# Altium integrated library NXP_60_26022015.IntLib: 1306 symbols (part 20 of 28)
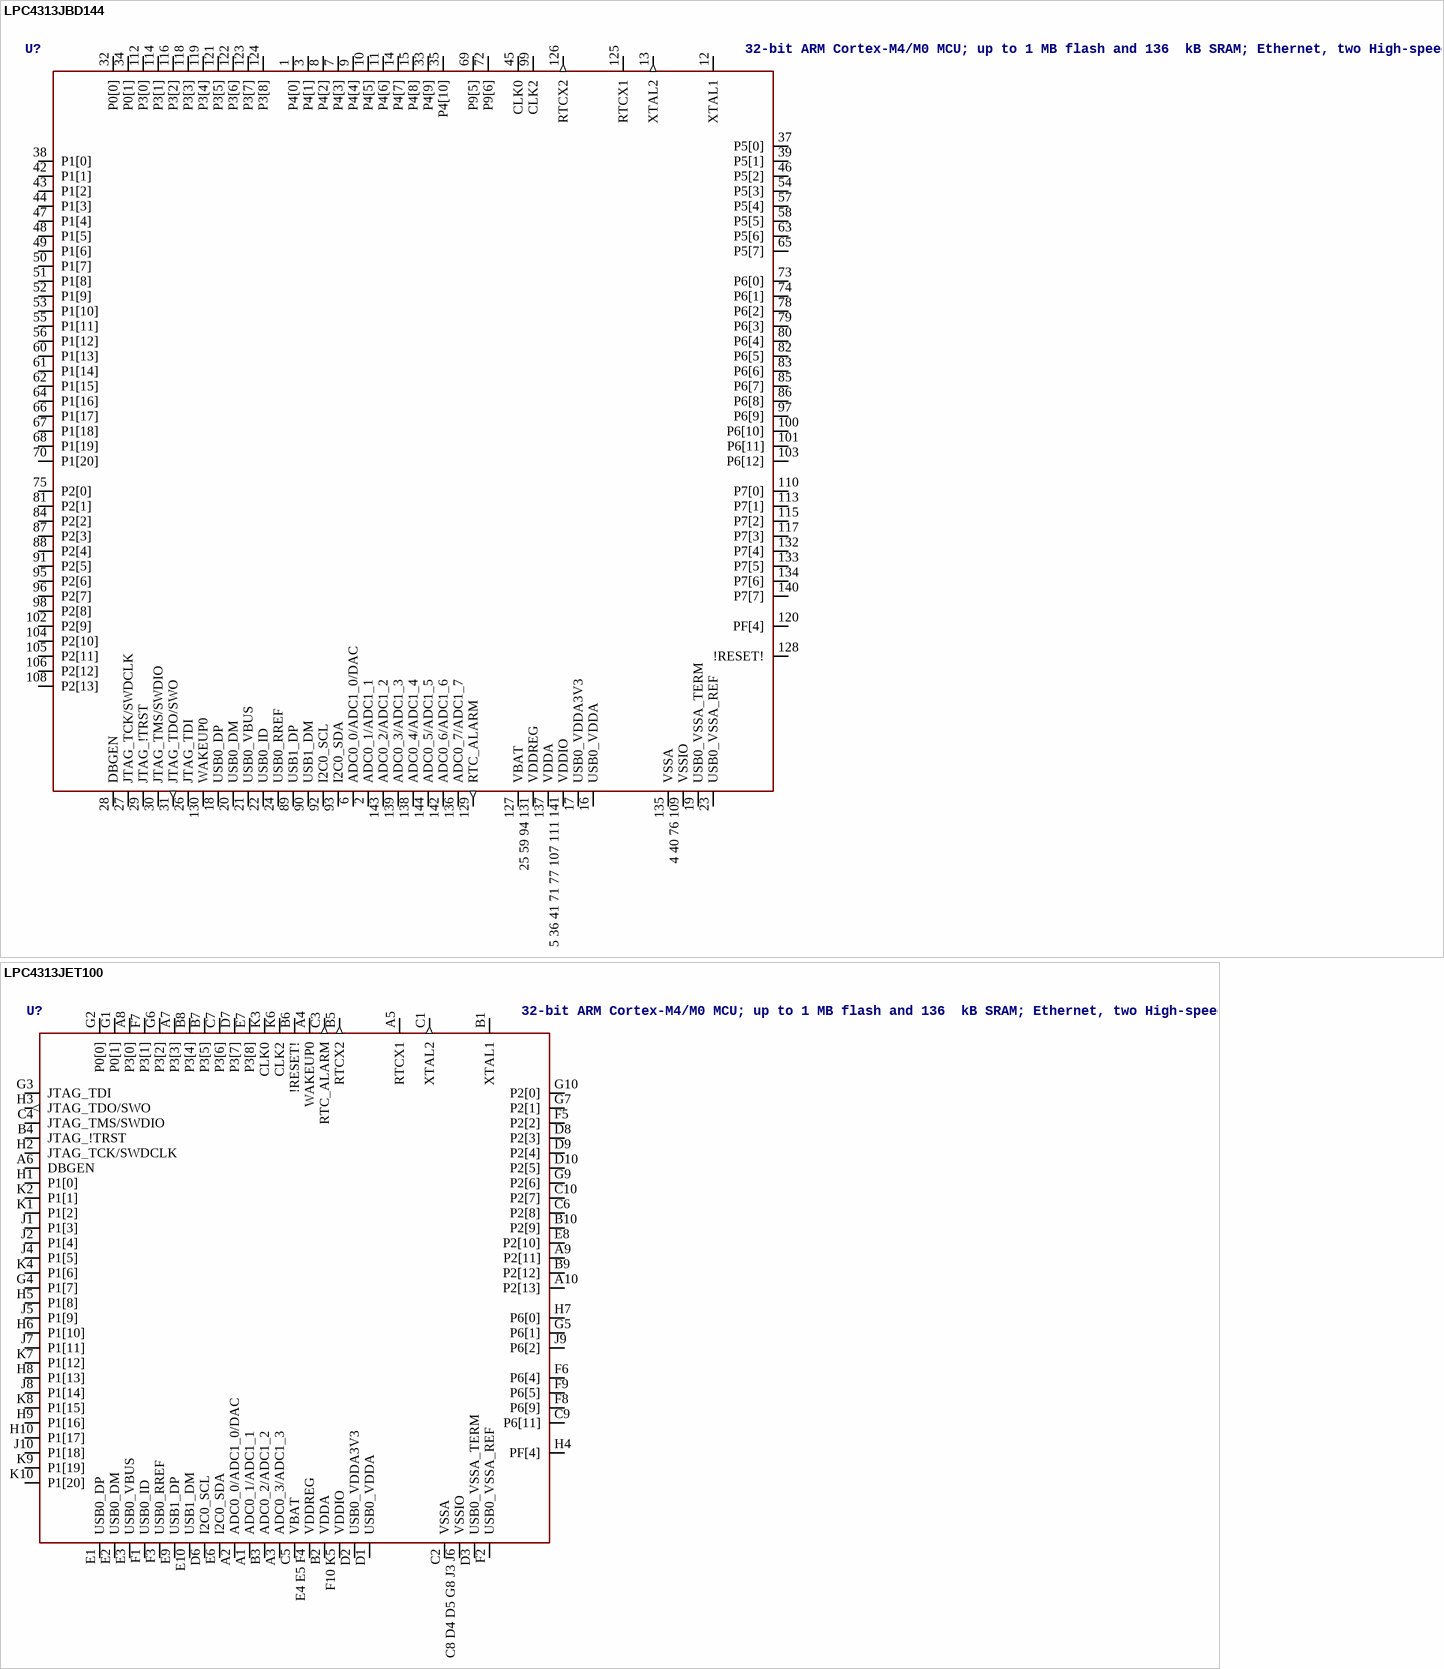
[diagram p204: symbols LPC4313JBD144 to LPC4313JET100]

## LPC4313JBD144
designator U?, comment 32-bit ARM Cortex-M4/M0 MCU; up to 1 MB flash and 136  kB SRAM; Ethernet, two High-speed USB, LCD, EMC The LPC435x/3x/2x/1x are ARM Cortex-M4 based microcontrollers for embedded applications which include an ARM Cortex-M0 coprocessor, up to 1 MB of flash and 136 kB of on-chip SRAM, 16 kB of EEPROM memory, a quad SPI Flash Interface (SPIFI), advanced configurable peripherals such as the State Configurable Timer (SCT) and the Serial General Purpose I/O (SGPIO) interface, two High-speed USB controllers, Ethernet, LCD, an external memory controller, and multiple digital and analog peripherals. The LPC435x/3x/2x/1x operate at CPU frequencies of up to 204 MHz. The ARM Cortex-M4 is a next generation 32-bit core that offers system enhancements such as low power consumption, enhanced debug features, and a high level of support block integration. The ARM Cortex-M4 CPU incorporates a 3-stage pipeline, uses a Harvard architecture with separate local instruction and data buses as well as a third bus for peripherals, and includes an internal prefetch unit that supports speculative branching. The ARM Cortex-M4 supports single-cycle digital signal processing and SIMD instructions. A hardware floating-point unit is integrated in the core. The ARM Cortex-M0 coprocessor is an energy-efficient and easy-to-use 32-bit core which is upward code- and tool-compatible with the Cortex-M4 core. The Cortex-M0 coprocessor, designed as a replacement for existing 8/16-bit microcontrollers, offers up to 204 MHz performance with a simple instruction set and reduced code size.    AAL Eindhoven MK
footprint SOT486-1
pins: 1 P4[0], 2 ADC0_1/ADC1_1, 3 P4[1], 4 40 76 109 VSSIO (power), 5 36 41 71 77 107 111 141 VDDIO (power), 6 ADC0_0/ADC1_0/DAC, 7 P4[3], 8 P4[2], 9 P4[4], 10 P4[5], 11 P4[6], 12 XTAL1, 13 XTAL2 (out), 14 P4[7], 15 P4[8], 16 USB0_VDDA (power), 17 USB0_VDDA3V3 (power), 18 USB0_DP, 19 USB0_VSSA_TERM (power), 20 USB0_DM, 21 USB0_VBUS, 22 USB0_ID, 23 USB0_VSSA_REF (power), 24 USB0_RREF, 25 59 94 131 VDDREG (power), 26 JTAG_TDI, 27 JTAG_TCK/SWDCLK, 28 DBGEN, 29 JTAG_!TRST, 30 JTAG_TMS/SWDIO, 31 JTAG_TDO/SWO (out), 32 P0[0], 33 P4[9], 34 P0[1], 35 P4[10], 37 P5[0], 38 P1[0], 39 P5[1], 42 P1[1], 43 P1[2], 44 P1[3], 45 CLK0, 46 P5[2], 47 P1[4], 48 P1[5], 49 P1[6], 50 P1[7], 51 P1[8], 52 P1[9], 53 P1[10], 54 P5[3], 55 P1[11], 56 P1[12], 57 P5[4], 58 P5[5], 60 P1[13], 61 P1[14], 62 P1[15], 63 P5[6], 64 P1[16], 65 P5[7], 66 P1[17], 67 P1[18], 68 P1[19], 69 P9[5], 70 P1[20], 72 P9[6], 73 P6[0], 74 P6[1], 75 P2[0], 78 P6[2], 79 P6[3], 80 P6[4], 81 P2[1], 82 P6[5], 83 P6[6], 84 P2[2], 85 P6[7], 86 P6[8], 87 P2[3], 88 P2[4], 89 USB1_DP, 90 USB1_DM, 91 P2[5], 92 I2C0_SCL, 93 I2C0_SDA, 95 P2[6], 96 P2[7], 97 P6[9], 98 P2[8], 99 CLK2, 100 P6[10], 101 P6[11], 102 P2[9], 103 P6[12], 104 P2[10], 105 P2[11], 106 P2[12], 108 P2[13], 110 P7[0], 112 P3[0], 113 P7[1], 114 P3[1], 115 P7[2], 116 P3[2], 117 P7[3], 118 P3[3], 119 P3[4], 120 PF[4], 121 P3[5], 122 P3[6], 123 P3[7], 124 P3[8], 125 RTCX1, 126 RTCX2 (out), 127 VBAT (power), 128 !RESET!, 129 RTC_ALARM (out), 130 WAKEUP0, 132 P7[4], 133 P7[5], 134 P7[6], 135 VSSA (power), 136 ADC0_7/ADC1_7, 137 VDDA (power), 138 ADC0_4/ADC1_4, 139 ADC0_3/ADC1_3, 140 P7[7], 142 ADC0_6/ADC1_6, 143 ADC0_2/ADC1_2, 144 ADC0_5/ADC1_5

## LPC4313JET100
designator U?, comment 32-bit ARM Cortex-M4/M0 MCU; up to 1 MB flash and 136  kB SRAM; Ethernet, two High-speed USB, LCD, EMC The LPC435x/3x/2x/1x are ARM Cortex-M4 based microcontrollers for embedded applications which include an ARM Cortex-M0 coprocessor, up to 1 MB of flash and 136 kB of on-chip SRAM, 16 kB of EEPROM memory, a quad SPI Flash Interface (SPIFI), advanced configurable peripherals such as the State Configurable Timer (SCT) and the Serial General Purpose I/O (SGPIO) interface, two High-speed USB controllers, Ethernet, LCD, an external memory controller, and multiple digital and analog peripherals. The LPC435x/3x/2x/1x operate at CPU frequencies of up to 204 MHz. The ARM Cortex-M4 is a next generation 32-bit core that offers system enhancements such as low power consumption, enhanced debug features, and a high level of support block integration. The ARM Cortex-M4 CPU incorporates a 3-stage pipeline, uses a Harvard architecture with separate local instruction and data buses as well as a third bus for peripherals, and includes an internal prefetch unit that supports speculative branching. The ARM Cortex-M4 supports single-cycle digital signal processing and SIMD instructions. A hardware floating-point unit is integrated in the core. The ARM Cortex-M0 coprocessor is an energy-efficient and easy-to-use 32-bit core which is upward code- and tool-compatible with the Cortex-M4 core. The Cortex-M0 coprocessor, designed as a replacement for existing 8/16-bit microcontrollers, offers up to 204 MHz performance with a simple instruction set and reduced code size.    AAL Eindhoven MK
footprint SOT926-1
pins: A1 ADC0_1/ADC1_1, A2 ADC0_0/ADC1_0/DAC, A3 ADC0_3/ADC1_3, A4 WAKEUP0, A5 RTCX1, A6 DBGEN, A7 P3[3], A8 P3[0], A9 P2[11], A10 P2[13], B1 XTAL1, B2 VDDA (power), B3 ADC0_2/ADC1_2, B4 JTAG_!TRST, B5 RTCX2 (out), B6 !RESET!, B7 P3[5], B8 P3[4], B9 P2[12], B10 P2[9], C1 XTAL2 (out), C2 VSSA (power), C3 RTC_ALARM (out), C4 JTAG_TMS/SWDIO, C5 VBAT (power), C6 P2[8], C7 P3[6], C8 D4 D5 G8 J3 J6 VSSIO (power), C9 P6[11], C10 P2[7], D1 USB0_VDDA (power), D2 USB0_VDDA3V3 (power), D3 USB0_VSSA_TERM (power), D6 I2C0_SCL, D7 P3[7], D8 P2[3], D9 P2[4], D10 P2[5], E1 USB0_DP, E2 USB0_DM, E3 USB0_VBUS, E4 E5 F4 VDDREG (power), E6 I2C0_SDA, E7 P3[8], E8 P2[10], E9 USB1_DP, E10 USB1_DM, F1 USB0_ID, F2 USB0_VSSA_REF (power), F3 USB0_RREF, F5 P2[2], F6 P6[4], F7 P3[1], F8 P6[9], F9 P6[5], F10 K5 VDDIO (power), G1 P0[1], G2 P0[0], G3 JTAG_TDI, G4 P1[7], G5 P6[1], G6 P3[2], G7 P2[1], G9 P2[6], G10 P2[0], H1 P1[0], H2 JTAG_TCK/SWDCLK, H3 JTAG_TDO/SWO (out), H4 PF[4], H5 P1[8], H6 P1[10], H7 P6[0], H8 P1[13], H9 P1[16], H10 P1[17], J1 P1[3], J2 P1[4], J4 P1[5], J5 P1[9], J7 P1[11], J8 P1[14], J9 P6[2], J10 P1[18], K1 P1[2], K2 P1[1], K3 CLK0, K4 P1[6], K6 CLK2, K7 P1[12], K8 P1[15], K9 P1[19], K10 P1[20]

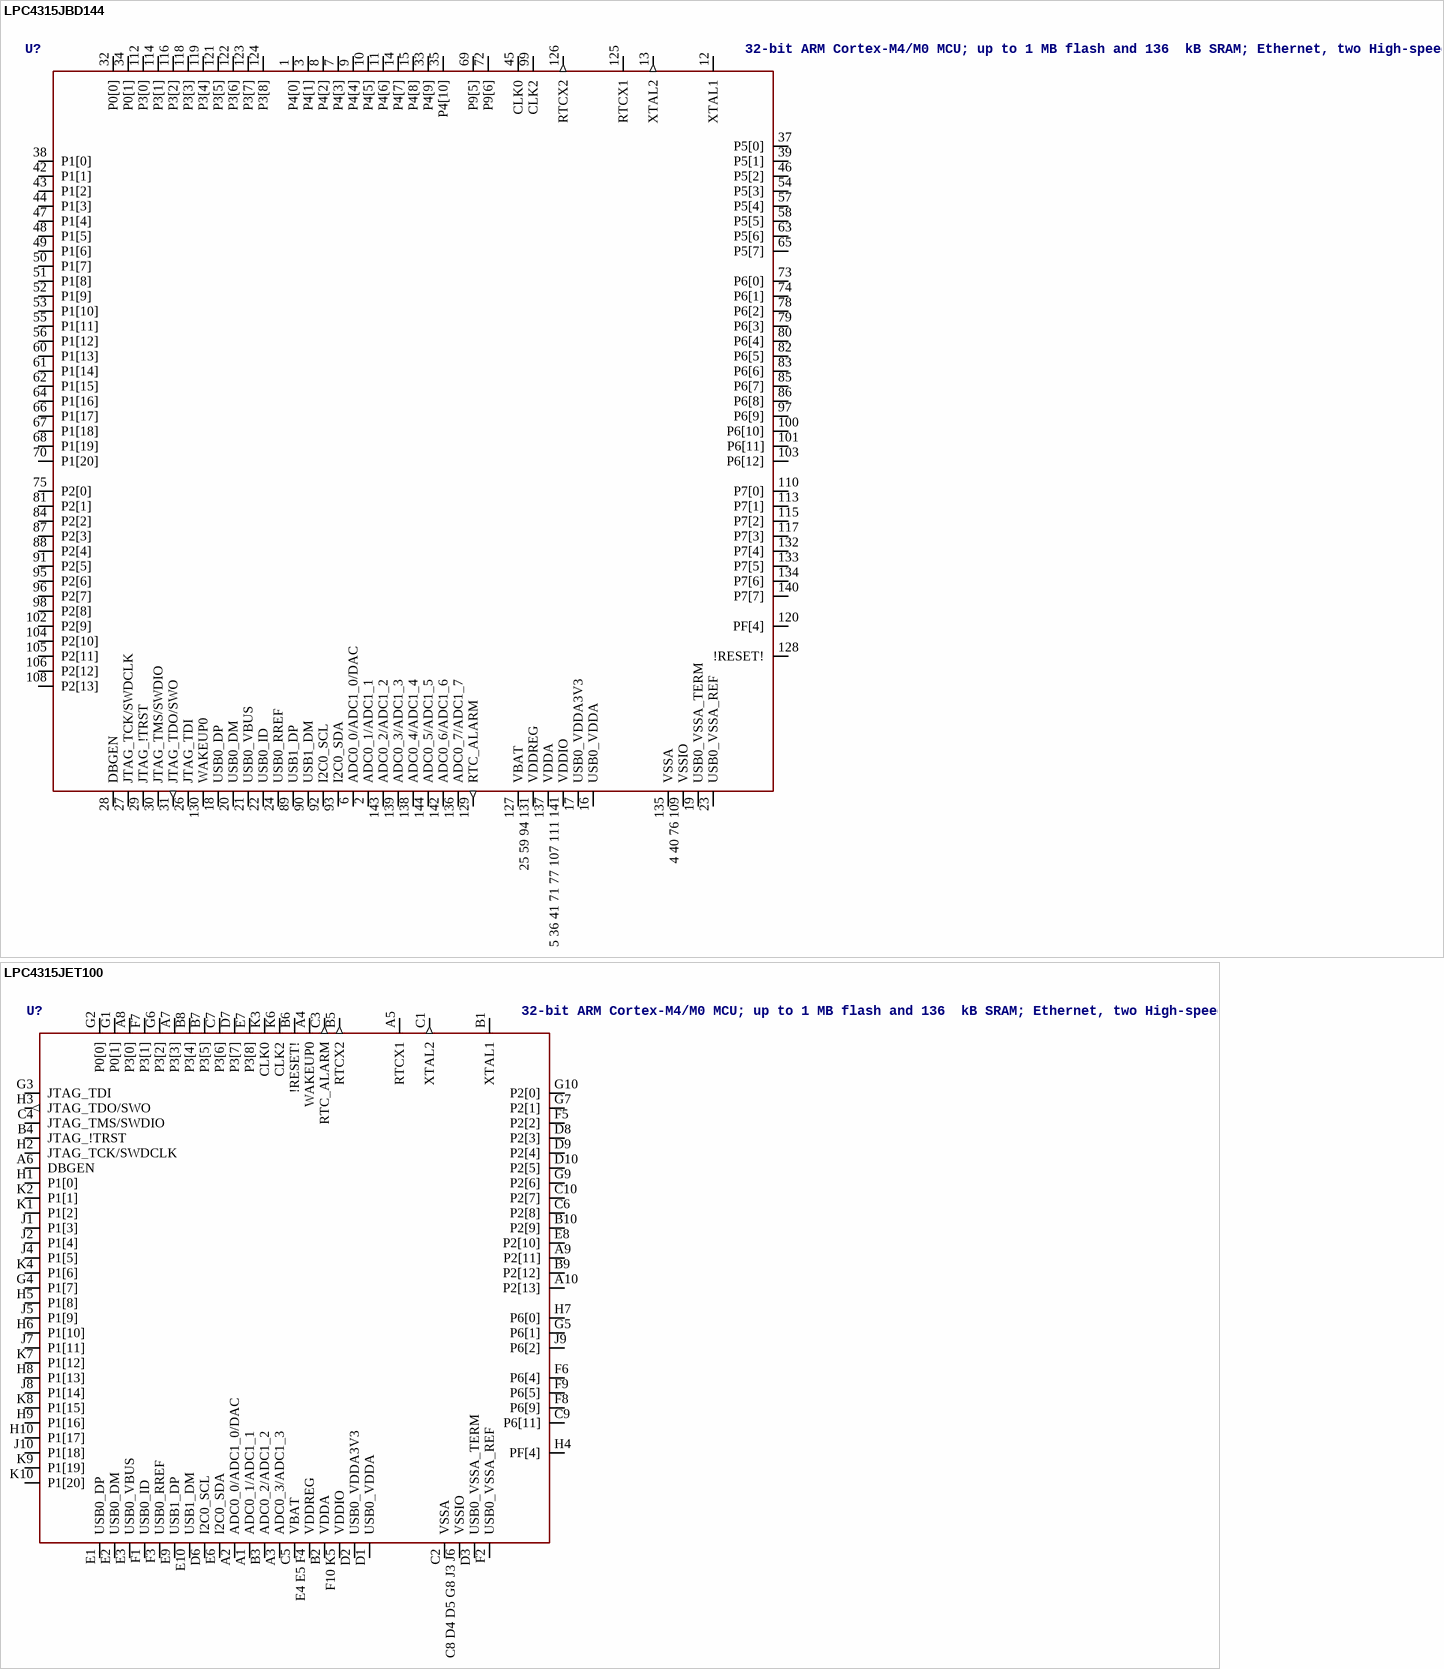
[diagram p132: symbols LPC4315JBD144 to LPC4315JET100]

## LPC4315JBD144
designator U?, comment 32-bit ARM Cortex-M4/M0 MCU; up to 1 MB flash and 136  kB SRAM; Ethernet, two High-speed USB, LCD, EMC The LPC435x/3x/2x/1x are ARM Cortex-M4 based microcontrollers for embedded applications which include an ARM Cortex-M0 coprocessor, up to 1 MB of flash and 136 kB of on-chip SRAM, 16 kB of EEPROM memory, a quad SPI Flash Interface (SPIFI), advanced configurable peripherals such as the State Configurable Timer (SCT) and the Serial General Purpose I/O (SGPIO) interface, two High-speed USB controllers, Ethernet, LCD, an external memory controller, and multiple digital and analog peripherals. The LPC435x/3x/2x/1x operate at CPU frequencies of up to 204 MHz. The ARM Cortex-M4 is a next generation 32-bit core that offers system enhancements such as low power consumption, enhanced debug features, and a high level of support block integration. The ARM Cortex-M4 CPU incorporates a 3-stage pipeline, uses a Harvard architecture with separate local instruction and data buses as well as a third bus for peripherals, and includes an internal prefetch unit that supports speculative branching. The ARM Cortex-M4 supports single-cycle digital signal processing and SIMD instructions. A hardware floating-point unit is integrated in the core. The ARM Cortex-M0 coprocessor is an energy-efficient and easy-to-use 32-bit core which is upward code- and tool-compatible with the Cortex-M4 core. The Cortex-M0 coprocessor, designed as a replacement for existing 8/16-bit microcontrollers, offers up to 204 MHz performance with a simple instruction set and reduced code size.    AAL Eindhoven MK
footprint SOT486-1
pins: 1 P4[0], 2 ADC0_1/ADC1_1, 3 P4[1], 4 40 76 109 VSSIO (power), 5 36 41 71 77 107 111 141 VDDIO (power), 6 ADC0_0/ADC1_0/DAC, 7 P4[3], 8 P4[2], 9 P4[4], 10 P4[5], 11 P4[6], 12 XTAL1, 13 XTAL2 (out), 14 P4[7], 15 P4[8], 16 USB0_VDDA (power), 17 USB0_VDDA3V3 (power), 18 USB0_DP, 19 USB0_VSSA_TERM (power), 20 USB0_DM, 21 USB0_VBUS, 22 USB0_ID, 23 USB0_VSSA_REF (power), 24 USB0_RREF, 25 59 94 131 VDDREG (power), 26 JTAG_TDI, 27 JTAG_TCK/SWDCLK, 28 DBGEN, 29 JTAG_!TRST, 30 JTAG_TMS/SWDIO, 31 JTAG_TDO/SWO (out), 32 P0[0], 33 P4[9], 34 P0[1], 35 P4[10], 37 P5[0], 38 P1[0], 39 P5[1], 42 P1[1], 43 P1[2], 44 P1[3], 45 CLK0, 46 P5[2], 47 P1[4], 48 P1[5], 49 P1[6], 50 P1[7], 51 P1[8], 52 P1[9], 53 P1[10], 54 P5[3], 55 P1[11], 56 P1[12], 57 P5[4], 58 P5[5], 60 P1[13], 61 P1[14], 62 P1[15], 63 P5[6], 64 P1[16], 65 P5[7], 66 P1[17], 67 P1[18], 68 P1[19], 69 P9[5], 70 P1[20], 72 P9[6], 73 P6[0], 74 P6[1], 75 P2[0], 78 P6[2], 79 P6[3], 80 P6[4], 81 P2[1], 82 P6[5], 83 P6[6], 84 P2[2], 85 P6[7], 86 P6[8], 87 P2[3], 88 P2[4], 89 USB1_DP, 90 USB1_DM, 91 P2[5], 92 I2C0_SCL, 93 I2C0_SDA, 95 P2[6], 96 P2[7], 97 P6[9], 98 P2[8], 99 CLK2, 100 P6[10], 101 P6[11], 102 P2[9], 103 P6[12], 104 P2[10], 105 P2[11], 106 P2[12], 108 P2[13], 110 P7[0], 112 P3[0], 113 P7[1], 114 P3[1], 115 P7[2], 116 P3[2], 117 P7[3], 118 P3[3], 119 P3[4], 120 PF[4], 121 P3[5], 122 P3[6], 123 P3[7], 124 P3[8], 125 RTCX1, 126 RTCX2 (out), 127 VBAT (power), 128 !RESET!, 129 RTC_ALARM (out), 130 WAKEUP0, 132 P7[4], 133 P7[5], 134 P7[6], 135 VSSA (power), 136 ADC0_7/ADC1_7, 137 VDDA (power), 138 ADC0_4/ADC1_4, 139 ADC0_3/ADC1_3, 140 P7[7], 142 ADC0_6/ADC1_6, 143 ADC0_2/ADC1_2, 144 ADC0_5/ADC1_5

## LPC4315JET100
designator U?, comment 32-bit ARM Cortex-M4/M0 MCU; up to 1 MB flash and 136  kB SRAM; Ethernet, two High-speed USB, LCD, EMC The LPC435x/3x/2x/1x are ARM Cortex-M4 based microcontrollers for embedded applications which include an ARM Cortex-M0 coprocessor, up to 1 MB of flash and 136 kB of on-chip SRAM, 16 kB of EEPROM memory, a quad SPI Flash Interface (SPIFI), advanced configurable peripherals such as the State Configurable Timer (SCT) and the Serial General Purpose I/O (SGPIO) interface, two High-speed USB controllers, Ethernet, LCD, an external memory controller, and multiple digital and analog peripherals. The LPC435x/3x/2x/1x operate at CPU frequencies of up to 204 MHz. The ARM Cortex-M4 is a next generation 32-bit core that offers system enhancements such as low power consumption, enhanced debug features, and a high level of support block integration. The ARM Cortex-M4 CPU incorporates a 3-stage pipeline, uses a Harvard architecture with separate local instruction and data buses as well as a third bus for peripherals, and includes an internal prefetch unit that supports speculative branching. The ARM Cortex-M4 supports single-cycle digital signal processing and SIMD instructions. A hardware floating-point unit is integrated in the core. The ARM Cortex-M0 coprocessor is an energy-efficient and easy-to-use 32-bit core which is upward code- and tool-compatible with the Cortex-M4 core. The Cortex-M0 coprocessor, designed as a replacement for existing 8/16-bit microcontrollers, offers up to 204 MHz performance with a simple instruction set and reduced code size.    AAL Eindhoven MK
footprint SOT926-1
pins: A1 ADC0_1/ADC1_1, A2 ADC0_0/ADC1_0/DAC, A3 ADC0_3/ADC1_3, A4 WAKEUP0, A5 RTCX1, A6 DBGEN, A7 P3[3], A8 P3[0], A9 P2[11], A10 P2[13], B1 XTAL1, B2 VDDA (power), B3 ADC0_2/ADC1_2, B4 JTAG_!TRST, B5 RTCX2 (out), B6 !RESET!, B7 P3[5], B8 P3[4], B9 P2[12], B10 P2[9], C1 XTAL2 (out), C2 VSSA (power), C3 RTC_ALARM (out), C4 JTAG_TMS/SWDIO, C5 VBAT (power), C6 P2[8], C7 P3[6], C8 D4 D5 G8 J3 J6 VSSIO (power), C9 P6[11], C10 P2[7], D1 USB0_VDDA (power), D2 USB0_VDDA3V3 (power), D3 USB0_VSSA_TERM (power), D6 I2C0_SCL, D7 P3[7], D8 P2[3], D9 P2[4], D10 P2[5], E1 USB0_DP, E2 USB0_DM, E3 USB0_VBUS, E4 E5 F4 VDDREG (power), E6 I2C0_SDA, E7 P3[8], E8 P2[10], E9 USB1_DP, E10 USB1_DM, F1 USB0_ID, F2 USB0_VSSA_REF (power), F3 USB0_RREF, F5 P2[2], F6 P6[4], F7 P3[1], F8 P6[9], F9 P6[5], F10 K5 VDDIO (power), G1 P0[1], G2 P0[0], G3 JTAG_TDI, G4 P1[7], G5 P6[1], G6 P3[2], G7 P2[1], G9 P2[6], G10 P2[0], H1 P1[0], H2 JTAG_TCK/SWDCLK, H3 JTAG_TDO/SWO (out), H4 PF[4], H5 P1[8], H6 P1[10], H7 P6[0], H8 P1[13], H9 P1[16], H10 P1[17], J1 P1[3], J2 P1[4], J4 P1[5], J5 P1[9], J7 P1[11], J8 P1[14], J9 P6[2], J10 P1[18], K1 P1[2], K2 P1[1], K3 CLK0, K4 P1[6], K6 CLK2, K7 P1[12], K8 P1[15], K9 P1[19], K10 P1[20]

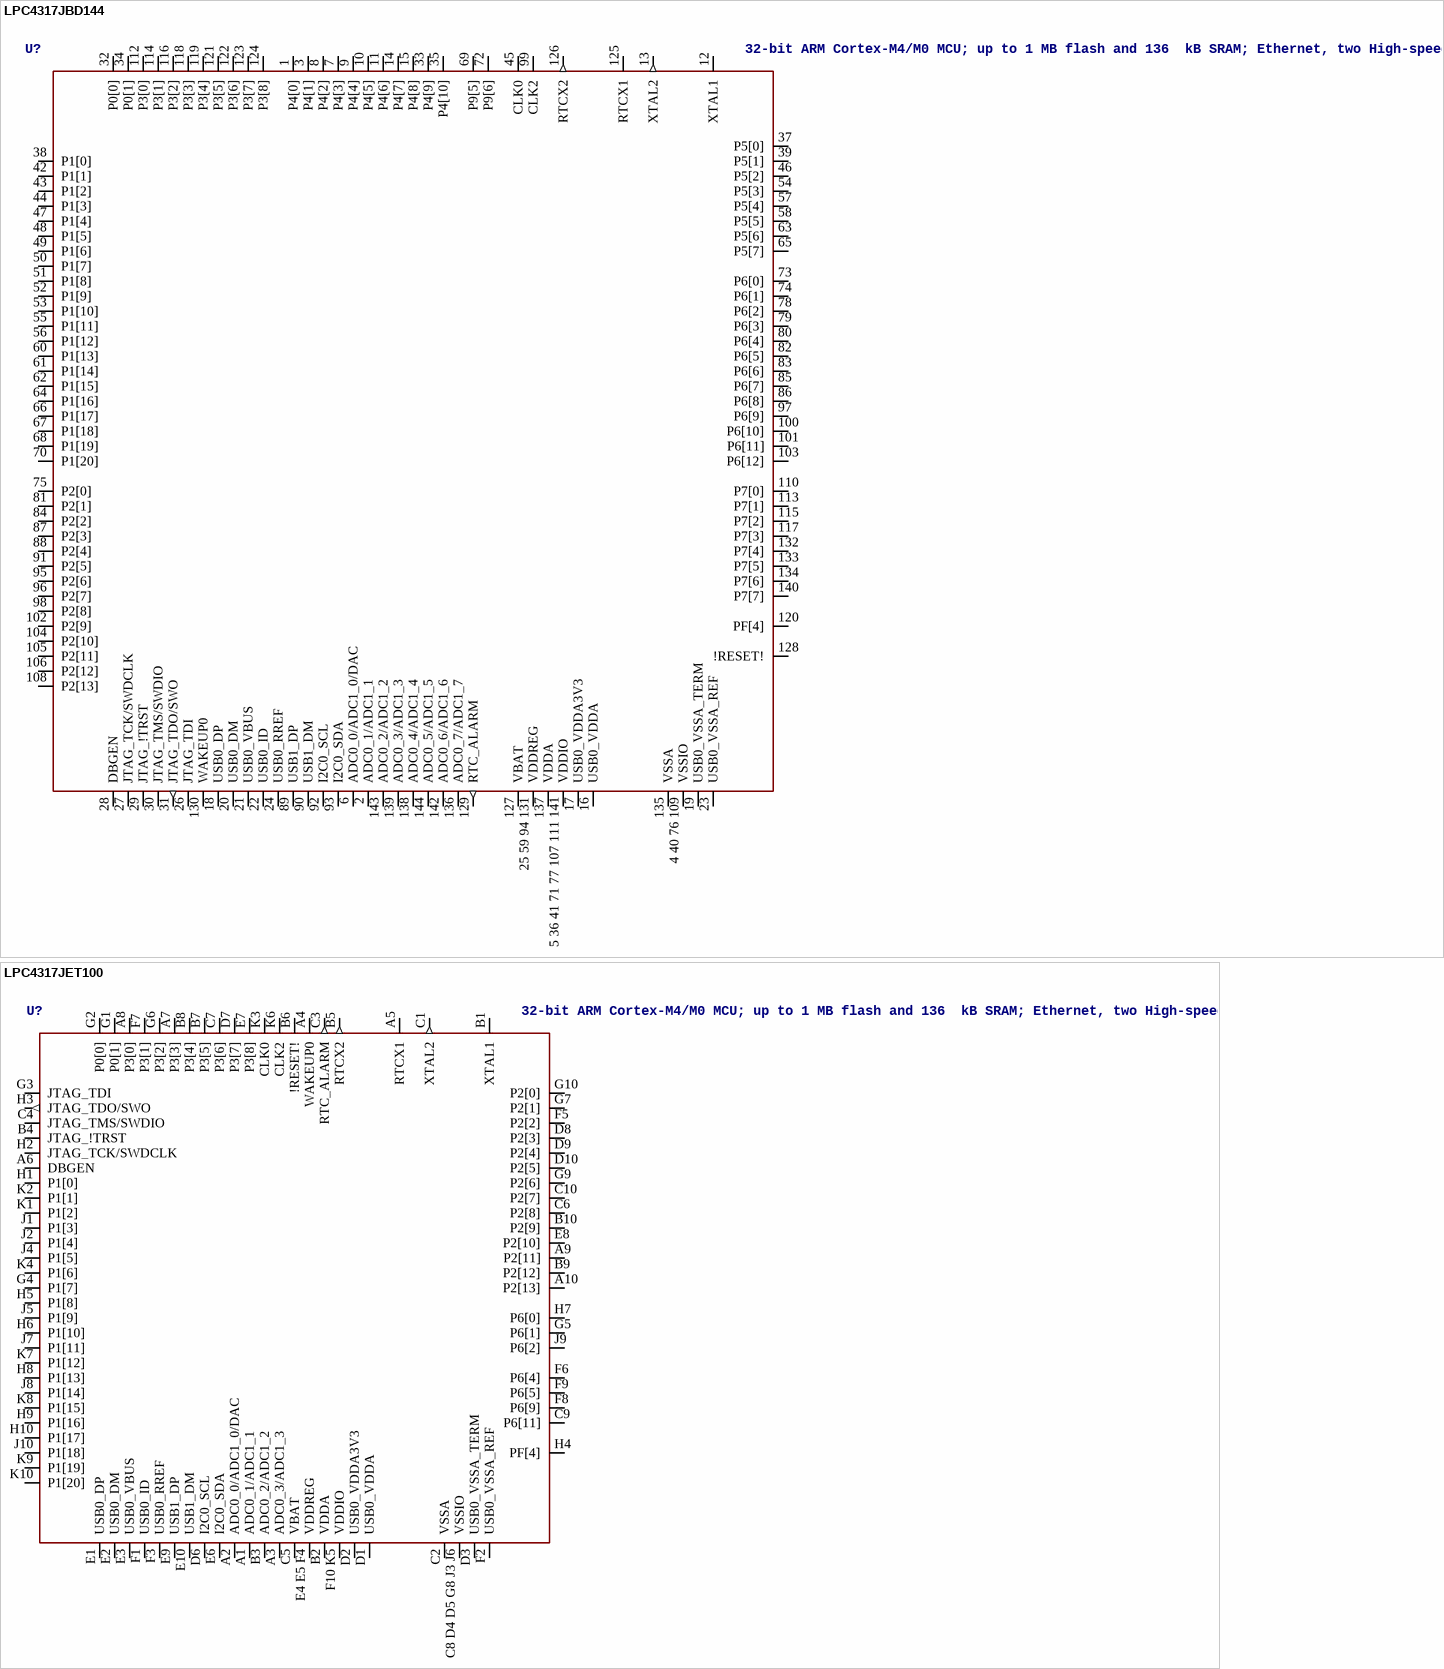
[diagram p133: symbols LPC4317JBD144 to LPC4317JET100]

## LPC4317JBD144
designator U?, comment 32-bit ARM Cortex-M4/M0 MCU; up to 1 MB flash and 136  kB SRAM; Ethernet, two High-speed USB, LCD, EMC The LPC435x/3x/2x/1x are ARM Cortex-M4 based microcontrollers for embedded applications which include an ARM Cortex-M0 coprocessor, up to 1 MB of flash and 136 kB of on-chip SRAM, 16 kB of EEPROM memory, a quad SPI Flash Interface (SPIFI), advanced configurable peripherals such as the State Configurable Timer (SCT) and the Serial General Purpose I/O (SGPIO) interface, two High-speed USB controllers, Ethernet, LCD, an external memory controller, and multiple digital and analog peripherals. The LPC435x/3x/2x/1x operate at CPU frequencies of up to 204 MHz. The ARM Cortex-M4 is a next generation 32-bit core that offers system enhancements such as low power consumption, enhanced debug features, and a high level of support block integration. The ARM Cortex-M4 CPU incorporates a 3-stage pipeline, uses a Harvard architecture with separate local instruction and data buses as well as a third bus for peripherals, and includes an internal prefetch unit that supports speculative branching. The ARM Cortex-M4 supports single-cycle digital signal processing and SIMD instructions. A hardware floating-point unit is integrated in the core. The ARM Cortex-M0 coprocessor is an energy-efficient and easy-to-use 32-bit core which is upward code- and tool-compatible with the Cortex-M4 core. The Cortex-M0 coprocessor, designed as a replacement for existing 8/16-bit microcontrollers, offers up to 204 MHz performance with a simple instruction set and reduced code size.    AAL Eindhoven MK
footprint SOT486-1
pins: 1 P4[0], 2 ADC0_1/ADC1_1, 3 P4[1], 4 40 76 109 VSSIO (power), 5 36 41 71 77 107 111 141 VDDIO (power), 6 ADC0_0/ADC1_0/DAC, 7 P4[3], 8 P4[2], 9 P4[4], 10 P4[5], 11 P4[6], 12 XTAL1, 13 XTAL2 (out), 14 P4[7], 15 P4[8], 16 USB0_VDDA (power), 17 USB0_VDDA3V3 (power), 18 USB0_DP, 19 USB0_VSSA_TERM (power), 20 USB0_DM, 21 USB0_VBUS, 22 USB0_ID, 23 USB0_VSSA_REF (power), 24 USB0_RREF, 25 59 94 131 VDDREG (power), 26 JTAG_TDI, 27 JTAG_TCK/SWDCLK, 28 DBGEN, 29 JTAG_!TRST, 30 JTAG_TMS/SWDIO, 31 JTAG_TDO/SWO (out), 32 P0[0], 33 P4[9], 34 P0[1], 35 P4[10], 37 P5[0], 38 P1[0], 39 P5[1], 42 P1[1], 43 P1[2], 44 P1[3], 45 CLK0, 46 P5[2], 47 P1[4], 48 P1[5], 49 P1[6], 50 P1[7], 51 P1[8], 52 P1[9], 53 P1[10], 54 P5[3], 55 P1[11], 56 P1[12], 57 P5[4], 58 P5[5], 60 P1[13], 61 P1[14], 62 P1[15], 63 P5[6], 64 P1[16], 65 P5[7], 66 P1[17], 67 P1[18], 68 P1[19], 69 P9[5], 70 P1[20], 72 P9[6], 73 P6[0], 74 P6[1], 75 P2[0], 78 P6[2], 79 P6[3], 80 P6[4], 81 P2[1], 82 P6[5], 83 P6[6], 84 P2[2], 85 P6[7], 86 P6[8], 87 P2[3], 88 P2[4], 89 USB1_DP, 90 USB1_DM, 91 P2[5], 92 I2C0_SCL, 93 I2C0_SDA, 95 P2[6], 96 P2[7], 97 P6[9], 98 P2[8], 99 CLK2, 100 P6[10], 101 P6[11], 102 P2[9], 103 P6[12], 104 P2[10], 105 P2[11], 106 P2[12], 108 P2[13], 110 P7[0], 112 P3[0], 113 P7[1], 114 P3[1], 115 P7[2], 116 P3[2], 117 P7[3], 118 P3[3], 119 P3[4], 120 PF[4], 121 P3[5], 122 P3[6], 123 P3[7], 124 P3[8], 125 RTCX1, 126 RTCX2 (out), 127 VBAT (power), 128 !RESET!, 129 RTC_ALARM (out), 130 WAKEUP0, 132 P7[4], 133 P7[5], 134 P7[6], 135 VSSA (power), 136 ADC0_7/ADC1_7, 137 VDDA (power), 138 ADC0_4/ADC1_4, 139 ADC0_3/ADC1_3, 140 P7[7], 142 ADC0_6/ADC1_6, 143 ADC0_2/ADC1_2, 144 ADC0_5/ADC1_5

## LPC4317JET100
designator U?, comment 32-bit ARM Cortex-M4/M0 MCU; up to 1 MB flash and 136  kB SRAM; Ethernet, two High-speed USB, LCD, EMC The LPC435x/3x/2x/1x are ARM Cortex-M4 based microcontrollers for embedded applications which include an ARM Cortex-M0 coprocessor, up to 1 MB of flash and 136 kB of on-chip SRAM, 16 kB of EEPROM memory, a quad SPI Flash Interface (SPIFI), advanced configurable peripherals such as the State Configurable Timer (SCT) and the Serial General Purpose I/O (SGPIO) interface, two High-speed USB controllers, Ethernet, LCD, an external memory controller, and multiple digital and analog peripherals. The LPC435x/3x/2x/1x operate at CPU frequencies of up to 204 MHz. The ARM Cortex-M4 is a next generation 32-bit core that offers system enhancements such as low power consumption, enhanced debug features, and a high level of support block integration. The ARM Cortex-M4 CPU incorporates a 3-stage pipeline, uses a Harvard architecture with separate local instruction and data buses as well as a third bus for peripherals, and includes an internal prefetch unit that supports speculative branching. The ARM Cortex-M4 supports single-cycle digital signal processing and SIMD instructions. A hardware floating-point unit is integrated in the core. The ARM Cortex-M0 coprocessor is an energy-efficient and easy-to-use 32-bit core which is upward code- and tool-compatible with the Cortex-M4 core. The Cortex-M0 coprocessor, designed as a replacement for existing 8/16-bit microcontrollers, offers up to 204 MHz performance with a simple instruction set and reduced code size.    AAL Eindhoven MK
footprint SOT926-1
pins: A1 ADC0_1/ADC1_1, A2 ADC0_0/ADC1_0/DAC, A3 ADC0_3/ADC1_3, A4 WAKEUP0, A5 RTCX1, A6 DBGEN, A7 P3[3], A8 P3[0], A9 P2[11], A10 P2[13], B1 XTAL1, B2 VDDA (power), B3 ADC0_2/ADC1_2, B4 JTAG_!TRST, B5 RTCX2 (out), B6 !RESET!, B7 P3[5], B8 P3[4], B9 P2[12], B10 P2[9], C1 XTAL2 (out), C2 VSSA (power), C3 RTC_ALARM (out), C4 JTAG_TMS/SWDIO, C5 VBAT (power), C6 P2[8], C7 P3[6], C8 D4 D5 G8 J3 J6 VSSIO (power), C9 P6[11], C10 P2[7], D1 USB0_VDDA (power), D2 USB0_VDDA3V3 (power), D3 USB0_VSSA_TERM (power), D6 I2C0_SCL, D7 P3[7], D8 P2[3], D9 P2[4], D10 P2[5], E1 USB0_DP, E2 USB0_DM, E3 USB0_VBUS, E4 E5 F4 VDDREG (power), E6 I2C0_SDA, E7 P3[8], E8 P2[10], E9 USB1_DP, E10 USB1_DM, F1 USB0_ID, F2 USB0_VSSA_REF (power), F3 USB0_RREF, F5 P2[2], F6 P6[4], F7 P3[1], F8 P6[9], F9 P6[5], F10 K5 VDDIO (power), G1 P0[1], G2 P0[0], G3 JTAG_TDI, G4 P1[7], G5 P6[1], G6 P3[2], G7 P2[1], G9 P2[6], G10 P2[0], H1 P1[0], H2 JTAG_TCK/SWDCLK, H3 JTAG_TDO/SWO (out), H4 PF[4], H5 P1[8], H6 P1[10], H7 P6[0], H8 P1[13], H9 P1[16], H10 P1[17], J1 P1[3], J2 P1[4], J4 P1[5], J5 P1[9], J7 P1[11], J8 P1[14], J9 P6[2], J10 P1[18], K1 P1[2], K2 P1[1], K3 CLK0, K4 P1[6], K6 CLK2, K7 P1[12], K8 P1[15], K9 P1[19], K10 P1[20]

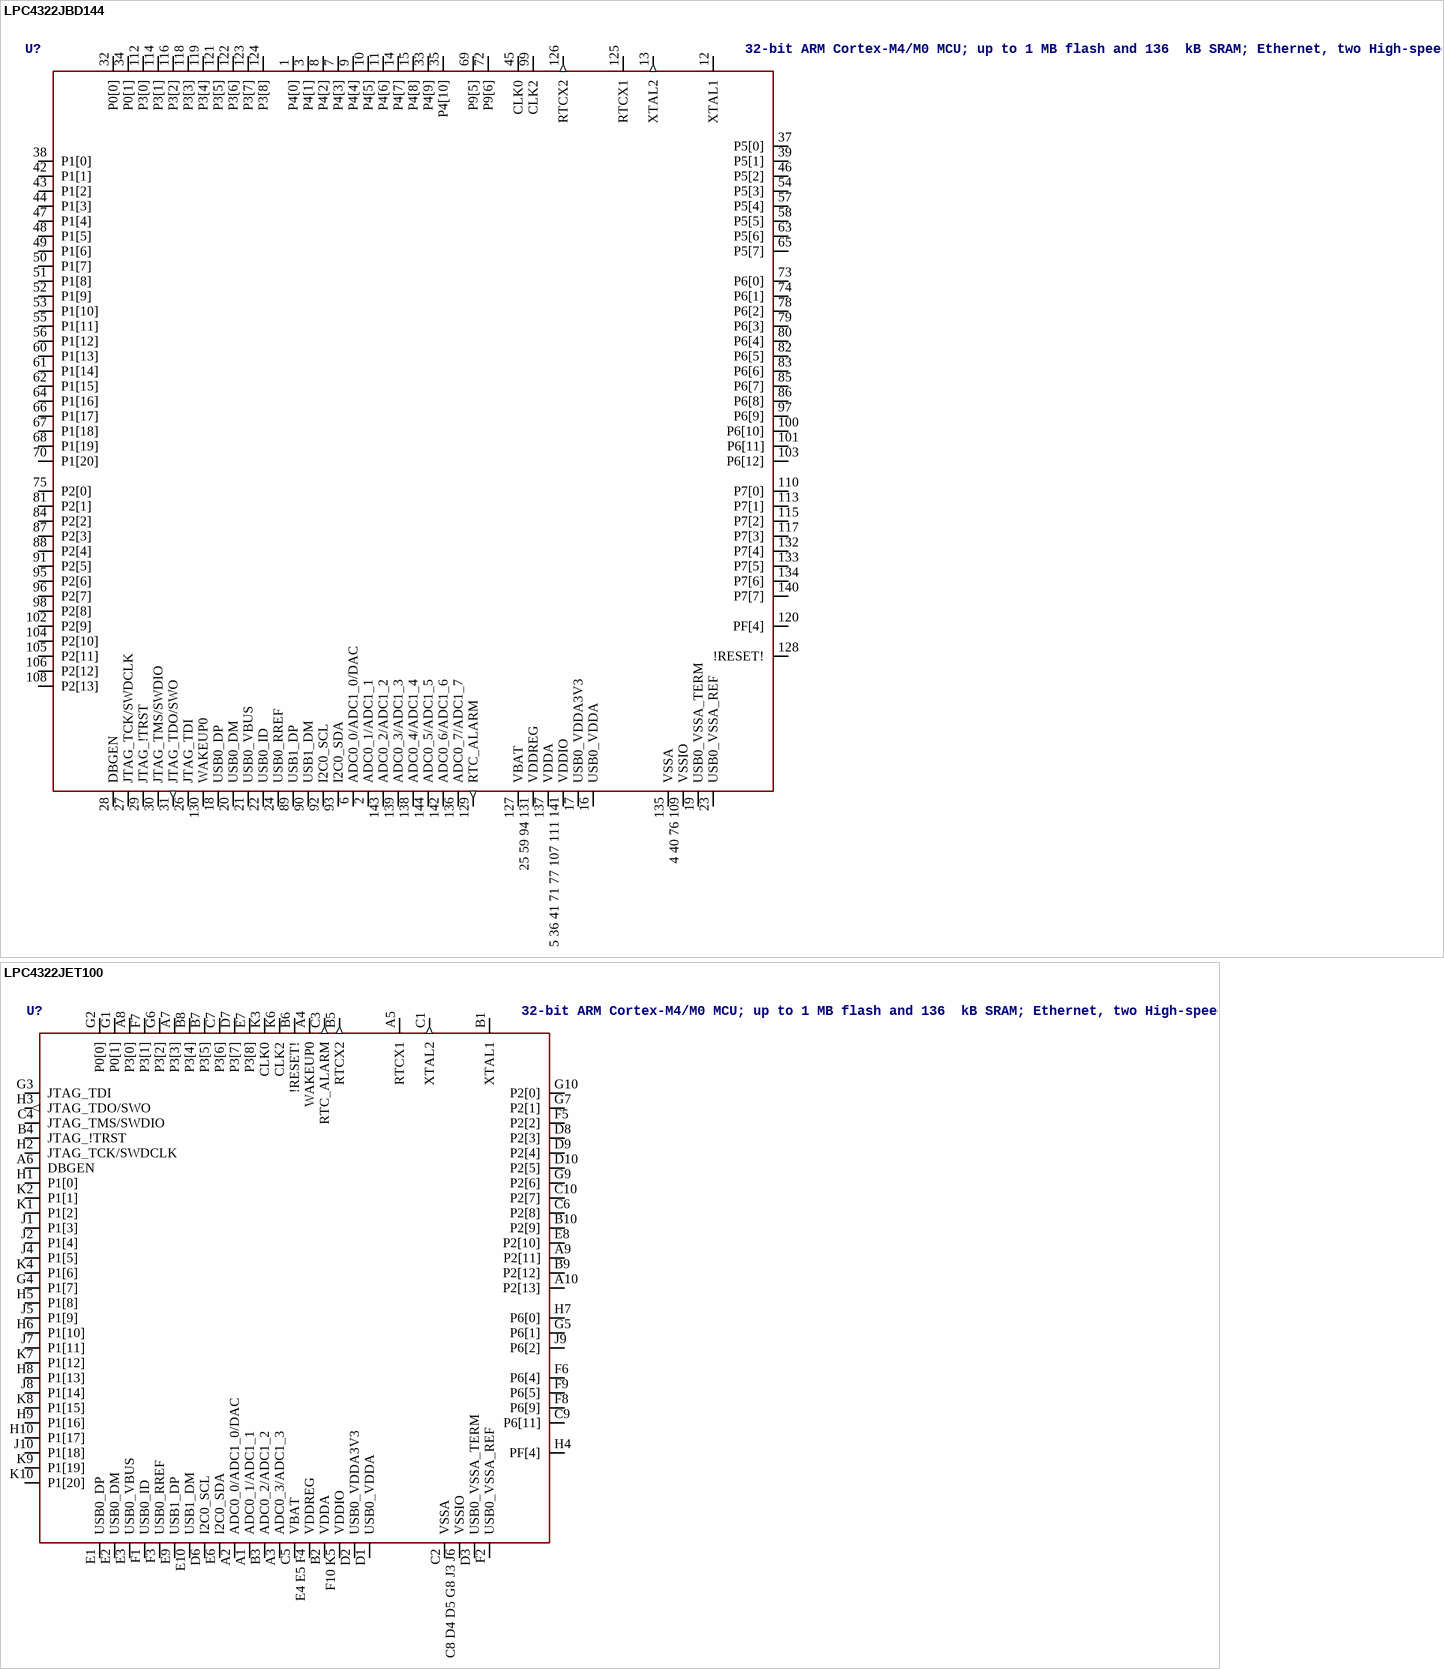
[diagram p134: symbols LPC4322JBD144 to LPC4322JET100]

## LPC4322JBD144
designator U?, comment 32-bit ARM Cortex-M4/M0 MCU; up to 1 MB flash and 136  kB SRAM; Ethernet, two High-speed USB, LCD, EMC The LPC435x/3x/2x/1x are ARM Cortex-M4 based microcontrollers for embedded applications which include an ARM Cortex-M0 coprocessor, up to 1 MB of flash and 136 kB of on-chip SRAM, 16 kB of EEPROM memory, a quad SPI Flash Interface (SPIFI), advanced configurable peripherals such as the State Configurable Timer (SCT) and the Serial General Purpose I/O (SGPIO) interface, two High-speed USB controllers, Ethernet, LCD, an external memory controller, and multiple digital and analog peripherals. The LPC435x/3x/2x/1x operate at CPU frequencies of up to 204 MHz. The ARM Cortex-M4 is a next generation 32-bit core that offers system enhancements such as low power consumption, enhanced debug features, and a high level of support block integration. The ARM Cortex-M4 CPU incorporates a 3-stage pipeline, uses a Harvard architecture with separate local instruction and data buses as well as a third bus for peripherals, and includes an internal prefetch unit that supports speculative branching. The ARM Cortex-M4 supports single-cycle digital signal processing and SIMD instructions. A hardware floating-point unit is integrated in the core. The ARM Cortex-M0 coprocessor is an energy-efficient and easy-to-use 32-bit core which is upward code- and tool-compatible with the Cortex-M4 core. The Cortex-M0 coprocessor, designed as a replacement for existing 8/16-bit microcontrollers, offers up to 204 MHz performance with a simple instruction set and reduced code size.    AAL Eindhoven MK
footprint SOT486-1
pins: 1 P4[0], 2 ADC0_1/ADC1_1, 3 P4[1], 4 40 76 109 VSSIO (power), 5 36 41 71 77 107 111 141 VDDIO (power), 6 ADC0_0/ADC1_0/DAC, 7 P4[3], 8 P4[2], 9 P4[4], 10 P4[5], 11 P4[6], 12 XTAL1, 13 XTAL2 (out), 14 P4[7], 15 P4[8], 16 USB0_VDDA (power), 17 USB0_VDDA3V3 (power), 18 USB0_DP, 19 USB0_VSSA_TERM (power), 20 USB0_DM, 21 USB0_VBUS, 22 USB0_ID, 23 USB0_VSSA_REF (power), 24 USB0_RREF, 25 59 94 131 VDDREG (power), 26 JTAG_TDI, 27 JTAG_TCK/SWDCLK, 28 DBGEN, 29 JTAG_!TRST, 30 JTAG_TMS/SWDIO, 31 JTAG_TDO/SWO (out), 32 P0[0], 33 P4[9], 34 P0[1], 35 P4[10], 37 P5[0], 38 P1[0], 39 P5[1], 42 P1[1], 43 P1[2], 44 P1[3], 45 CLK0, 46 P5[2], 47 P1[4], 48 P1[5], 49 P1[6], 50 P1[7], 51 P1[8], 52 P1[9], 53 P1[10], 54 P5[3], 55 P1[11], 56 P1[12], 57 P5[4], 58 P5[5], 60 P1[13], 61 P1[14], 62 P1[15], 63 P5[6], 64 P1[16], 65 P5[7], 66 P1[17], 67 P1[18], 68 P1[19], 69 P9[5], 70 P1[20], 72 P9[6], 73 P6[0], 74 P6[1], 75 P2[0], 78 P6[2], 79 P6[3], 80 P6[4], 81 P2[1], 82 P6[5], 83 P6[6], 84 P2[2], 85 P6[7], 86 P6[8], 87 P2[3], 88 P2[4], 89 USB1_DP, 90 USB1_DM, 91 P2[5], 92 I2C0_SCL, 93 I2C0_SDA, 95 P2[6], 96 P2[7], 97 P6[9], 98 P2[8], 99 CLK2, 100 P6[10], 101 P6[11], 102 P2[9], 103 P6[12], 104 P2[10], 105 P2[11], 106 P2[12], 108 P2[13], 110 P7[0], 112 P3[0], 113 P7[1], 114 P3[1], 115 P7[2], 116 P3[2], 117 P7[3], 118 P3[3], 119 P3[4], 120 PF[4], 121 P3[5], 122 P3[6], 123 P3[7], 124 P3[8], 125 RTCX1, 126 RTCX2 (out), 127 VBAT (power), 128 !RESET!, 129 RTC_ALARM (out), 130 WAKEUP0, 132 P7[4], 133 P7[5], 134 P7[6], 135 VSSA (power), 136 ADC0_7/ADC1_7, 137 VDDA (power), 138 ADC0_4/ADC1_4, 139 ADC0_3/ADC1_3, 140 P7[7], 142 ADC0_6/ADC1_6, 143 ADC0_2/ADC1_2, 144 ADC0_5/ADC1_5

## LPC4322JET100
designator U?, comment 32-bit ARM Cortex-M4/M0 MCU; up to 1 MB flash and 136  kB SRAM; Ethernet, two High-speed USB, LCD, EMC The LPC435x/3x/2x/1x are ARM Cortex-M4 based microcontrollers for embedded applications which include an ARM Cortex-M0 coprocessor, up to 1 MB of flash and 136 kB of on-chip SRAM, 16 kB of EEPROM memory, a quad SPI Flash Interface (SPIFI), advanced configurable peripherals such as the State Configurable Timer (SCT) and the Serial General Purpose I/O (SGPIO) interface, two High-speed USB controllers, Ethernet, LCD, an external memory controller, and multiple digital and analog peripherals. The LPC435x/3x/2x/1x operate at CPU frequencies of up to 204 MHz. The ARM Cortex-M4 is a next generation 32-bit core that offers system enhancements such as low power consumption, enhanced debug features, and a high level of support block integration. The ARM Cortex-M4 CPU incorporates a 3-stage pipeline, uses a Harvard architecture with separate local instruction and data buses as well as a third bus for peripherals, and includes an internal prefetch unit that supports speculative branching. The ARM Cortex-M4 supports single-cycle digital signal processing and SIMD instructions. A hardware floating-point unit is integrated in the core. The ARM Cortex-M0 coprocessor is an energy-efficient and easy-to-use 32-bit core which is upward code- and tool-compatible with the Cortex-M4 core. The Cortex-M0 coprocessor, designed as a replacement for existing 8/16-bit microcontrollers, offers up to 204 MHz performance with a simple instruction set and reduced code size.    AAL Eindhoven MK
footprint SOT926-1
pins: A1 ADC0_1/ADC1_1, A2 ADC0_0/ADC1_0/DAC, A3 ADC0_3/ADC1_3, A4 WAKEUP0, A5 RTCX1, A6 DBGEN, A7 P3[3], A8 P3[0], A9 P2[11], A10 P2[13], B1 XTAL1, B2 VDDA (power), B3 ADC0_2/ADC1_2, B4 JTAG_!TRST, B5 RTCX2 (out), B6 !RESET!, B7 P3[5], B8 P3[4], B9 P2[12], B10 P2[9], C1 XTAL2 (out), C2 VSSA (power), C3 RTC_ALARM (out), C4 JTAG_TMS/SWDIO, C5 VBAT (power), C6 P2[8], C7 P3[6], C8 D4 D5 G8 J3 J6 VSSIO (power), C9 P6[11], C10 P2[7], D1 USB0_VDDA (power), D2 USB0_VDDA3V3 (power), D3 USB0_VSSA_TERM (power), D6 I2C0_SCL, D7 P3[7], D8 P2[3], D9 P2[4], D10 P2[5], E1 USB0_DP, E2 USB0_DM, E3 USB0_VBUS, E4 E5 F4 VDDREG (power), E6 I2C0_SDA, E7 P3[8], E8 P2[10], E9 USB1_DP, E10 USB1_DM, F1 USB0_ID, F2 USB0_VSSA_REF (power), F3 USB0_RREF, F5 P2[2], F6 P6[4], F7 P3[1], F8 P6[9], F9 P6[5], F10 K5 VDDIO (power), G1 P0[1], G2 P0[0], G3 JTAG_TDI, G4 P1[7], G5 P6[1], G6 P3[2], G7 P2[1], G9 P2[6], G10 P2[0], H1 P1[0], H2 JTAG_TCK/SWDCLK, H3 JTAG_TDO/SWO (out), H4 PF[4], H5 P1[8], H6 P1[10], H7 P6[0], H8 P1[13], H9 P1[16], H10 P1[17], J1 P1[3], J2 P1[4], J4 P1[5], J5 P1[9], J7 P1[11], J8 P1[14], J9 P6[2], J10 P1[18], K1 P1[2], K2 P1[1], K3 CLK0, K4 P1[6], K6 CLK2, K7 P1[12], K8 P1[15], K9 P1[19], K10 P1[20]

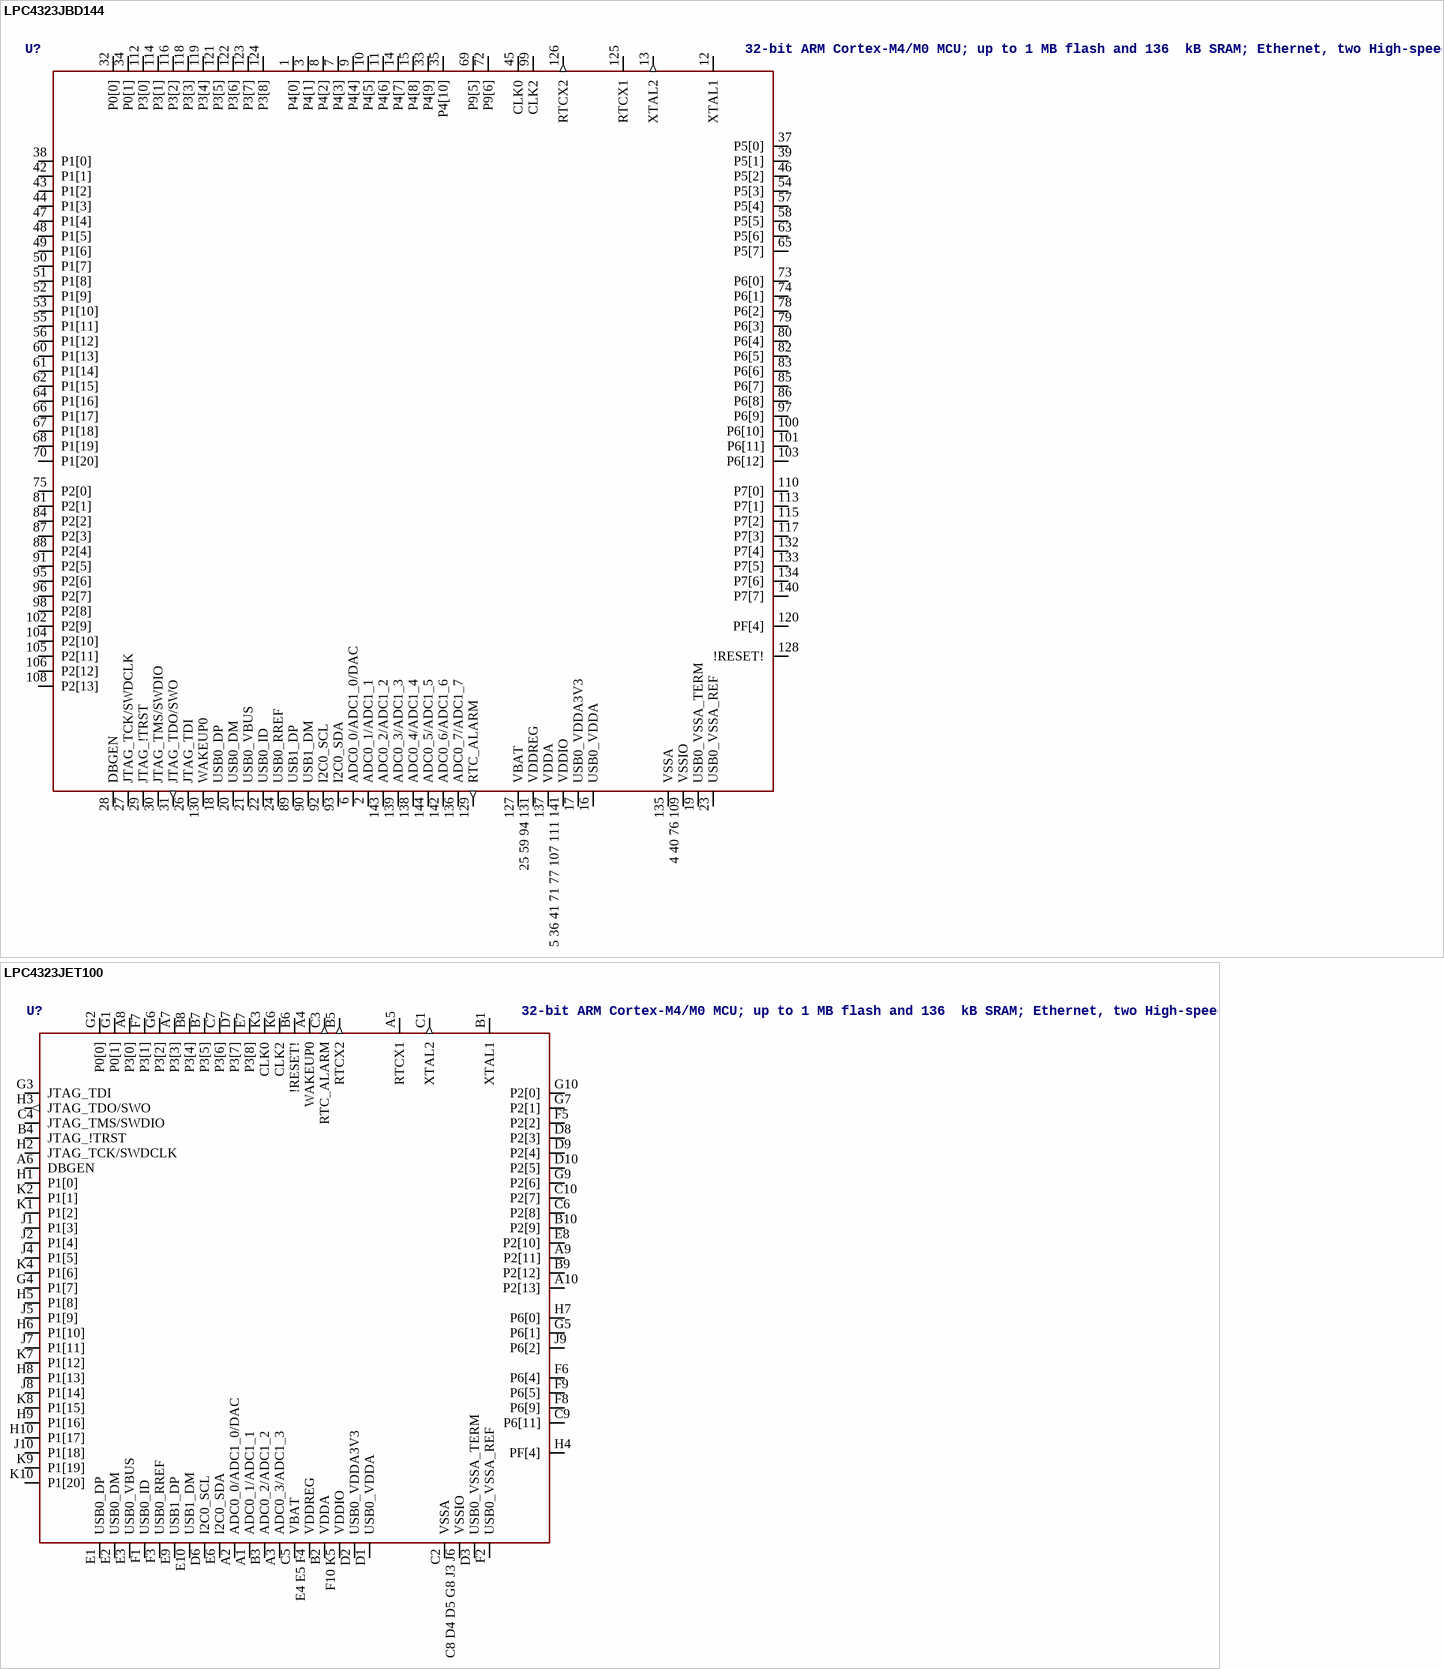
[diagram p135: symbols LPC4323JBD144 to LPC4323JET100]

## LPC4323JBD144
designator U?, comment 32-bit ARM Cortex-M4/M0 MCU; up to 1 MB flash and 136  kB SRAM; Ethernet, two High-speed USB, LCD, EMC The LPC435x/3x/2x/1x are ARM Cortex-M4 based microcontrollers for embedded applications which include an ARM Cortex-M0 coprocessor, up to 1 MB of flash and 136 kB of on-chip SRAM, 16 kB of EEPROM memory, a quad SPI Flash Interface (SPIFI), advanced configurable peripherals such as the State Configurable Timer (SCT) and the Serial General Purpose I/O (SGPIO) interface, two High-speed USB controllers, Ethernet, LCD, an external memory controller, and multiple digital and analog peripherals. The LPC435x/3x/2x/1x operate at CPU frequencies of up to 204 MHz. The ARM Cortex-M4 is a next generation 32-bit core that offers system enhancements such as low power consumption, enhanced debug features, and a high level of support block integration. The ARM Cortex-M4 CPU incorporates a 3-stage pipeline, uses a Harvard architecture with separate local instruction and data buses as well as a third bus for peripherals, and includes an internal prefetch unit that supports speculative branching. The ARM Cortex-M4 supports single-cycle digital signal processing and SIMD instructions. A hardware floating-point unit is integrated in the core. The ARM Cortex-M0 coprocessor is an energy-efficient and easy-to-use 32-bit core which is upward code- and tool-compatible with the Cortex-M4 core. The Cortex-M0 coprocessor, designed as a replacement for existing 8/16-bit microcontrollers, offers up to 204 MHz performance with a simple instruction set and reduced code size.    AAL Eindhoven MK
footprint SOT486-1
pins: 1 P4[0], 2 ADC0_1/ADC1_1, 3 P4[1], 4 40 76 109 VSSIO (power), 5 36 41 71 77 107 111 141 VDDIO (power), 6 ADC0_0/ADC1_0/DAC, 7 P4[3], 8 P4[2], 9 P4[4], 10 P4[5], 11 P4[6], 12 XTAL1, 13 XTAL2 (out), 14 P4[7], 15 P4[8], 16 USB0_VDDA (power), 17 USB0_VDDA3V3 (power), 18 USB0_DP, 19 USB0_VSSA_TERM (power), 20 USB0_DM, 21 USB0_VBUS, 22 USB0_ID, 23 USB0_VSSA_REF (power), 24 USB0_RREF, 25 59 94 131 VDDREG (power), 26 JTAG_TDI, 27 JTAG_TCK/SWDCLK, 28 DBGEN, 29 JTAG_!TRST, 30 JTAG_TMS/SWDIO, 31 JTAG_TDO/SWO (out), 32 P0[0], 33 P4[9], 34 P0[1], 35 P4[10], 37 P5[0], 38 P1[0], 39 P5[1], 42 P1[1], 43 P1[2], 44 P1[3], 45 CLK0, 46 P5[2], 47 P1[4], 48 P1[5], 49 P1[6], 50 P1[7], 51 P1[8], 52 P1[9], 53 P1[10], 54 P5[3], 55 P1[11], 56 P1[12], 57 P5[4], 58 P5[5], 60 P1[13], 61 P1[14], 62 P1[15], 63 P5[6], 64 P1[16], 65 P5[7], 66 P1[17], 67 P1[18], 68 P1[19], 69 P9[5], 70 P1[20], 72 P9[6], 73 P6[0], 74 P6[1], 75 P2[0], 78 P6[2], 79 P6[3], 80 P6[4], 81 P2[1], 82 P6[5], 83 P6[6], 84 P2[2], 85 P6[7], 86 P6[8], 87 P2[3], 88 P2[4], 89 USB1_DP, 90 USB1_DM, 91 P2[5], 92 I2C0_SCL, 93 I2C0_SDA, 95 P2[6], 96 P2[7], 97 P6[9], 98 P2[8], 99 CLK2, 100 P6[10], 101 P6[11], 102 P2[9], 103 P6[12], 104 P2[10], 105 P2[11], 106 P2[12], 108 P2[13], 110 P7[0], 112 P3[0], 113 P7[1], 114 P3[1], 115 P7[2], 116 P3[2], 117 P7[3], 118 P3[3], 119 P3[4], 120 PF[4], 121 P3[5], 122 P3[6], 123 P3[7], 124 P3[8], 125 RTCX1, 126 RTCX2 (out), 127 VBAT (power), 128 !RESET!, 129 RTC_ALARM (out), 130 WAKEUP0, 132 P7[4], 133 P7[5], 134 P7[6], 135 VSSA (power), 136 ADC0_7/ADC1_7, 137 VDDA (power), 138 ADC0_4/ADC1_4, 139 ADC0_3/ADC1_3, 140 P7[7], 142 ADC0_6/ADC1_6, 143 ADC0_2/ADC1_2, 144 ADC0_5/ADC1_5

## LPC4323JET100
designator U?, comment 32-bit ARM Cortex-M4/M0 MCU; up to 1 MB flash and 136  kB SRAM; Ethernet, two High-speed USB, LCD, EMC The LPC435x/3x/2x/1x are ARM Cortex-M4 based microcontrollers for embedded applications which include an ARM Cortex-M0 coprocessor, up to 1 MB of flash and 136 kB of on-chip SRAM, 16 kB of EEPROM memory, a quad SPI Flash Interface (SPIFI), advanced configurable peripherals such as the State Configurable Timer (SCT) and the Serial General Purpose I/O (SGPIO) interface, two High-speed USB controllers, Ethernet, LCD, an external memory controller, and multiple digital and analog peripherals. The LPC435x/3x/2x/1x operate at CPU frequencies of up to 204 MHz. The ARM Cortex-M4 is a next generation 32-bit core that offers system enhancements such as low power consumption, enhanced debug features, and a high level of support block integration. The ARM Cortex-M4 CPU incorporates a 3-stage pipeline, uses a Harvard architecture with separate local instruction and data buses as well as a third bus for peripherals, and includes an internal prefetch unit that supports speculative branching. The ARM Cortex-M4 supports single-cycle digital signal processing and SIMD instructions. A hardware floating-point unit is integrated in the core. The ARM Cortex-M0 coprocessor is an energy-efficient and easy-to-use 32-bit core which is upward code- and tool-compatible with the Cortex-M4 core. The Cortex-M0 coprocessor, designed as a replacement for existing 8/16-bit microcontrollers, offers up to 204 MHz performance with a simple instruction set and reduced code size.    AAL Eindhoven MK
footprint SOT926-1
pins: A1 ADC0_1/ADC1_1, A2 ADC0_0/ADC1_0/DAC, A3 ADC0_3/ADC1_3, A4 WAKEUP0, A5 RTCX1, A6 DBGEN, A7 P3[3], A8 P3[0], A9 P2[11], A10 P2[13], B1 XTAL1, B2 VDDA (power), B3 ADC0_2/ADC1_2, B4 JTAG_!TRST, B5 RTCX2 (out), B6 !RESET!, B7 P3[5], B8 P3[4], B9 P2[12], B10 P2[9], C1 XTAL2 (out), C2 VSSA (power), C3 RTC_ALARM (out), C4 JTAG_TMS/SWDIO, C5 VBAT (power), C6 P2[8], C7 P3[6], C8 D4 D5 G8 J3 J6 VSSIO (power), C9 P6[11], C10 P2[7], D1 USB0_VDDA (power), D2 USB0_VDDA3V3 (power), D3 USB0_VSSA_TERM (power), D6 I2C0_SCL, D7 P3[7], D8 P2[3], D9 P2[4], D10 P2[5], E1 USB0_DP, E2 USB0_DM, E3 USB0_VBUS, E4 E5 F4 VDDREG (power), E6 I2C0_SDA, E7 P3[8], E8 P2[10], E9 USB1_DP, E10 USB1_DM, F1 USB0_ID, F2 USB0_VSSA_REF (power), F3 USB0_RREF, F5 P2[2], F6 P6[4], F7 P3[1], F8 P6[9], F9 P6[5], F10 K5 VDDIO (power), G1 P0[1], G2 P0[0], G3 JTAG_TDI, G4 P1[7], G5 P6[1], G6 P3[2], G7 P2[1], G9 P2[6], G10 P2[0], H1 P1[0], H2 JTAG_TCK/SWDCLK, H3 JTAG_TDO/SWO (out), H4 PF[4], H5 P1[8], H6 P1[10], H7 P6[0], H8 P1[13], H9 P1[16], H10 P1[17], J1 P1[3], J2 P1[4], J4 P1[5], J5 P1[9], J7 P1[11], J8 P1[14], J9 P6[2], J10 P1[18], K1 P1[2], K2 P1[1], K3 CLK0, K4 P1[6], K6 CLK2, K7 P1[12], K8 P1[15], K9 P1[19], K10 P1[20]

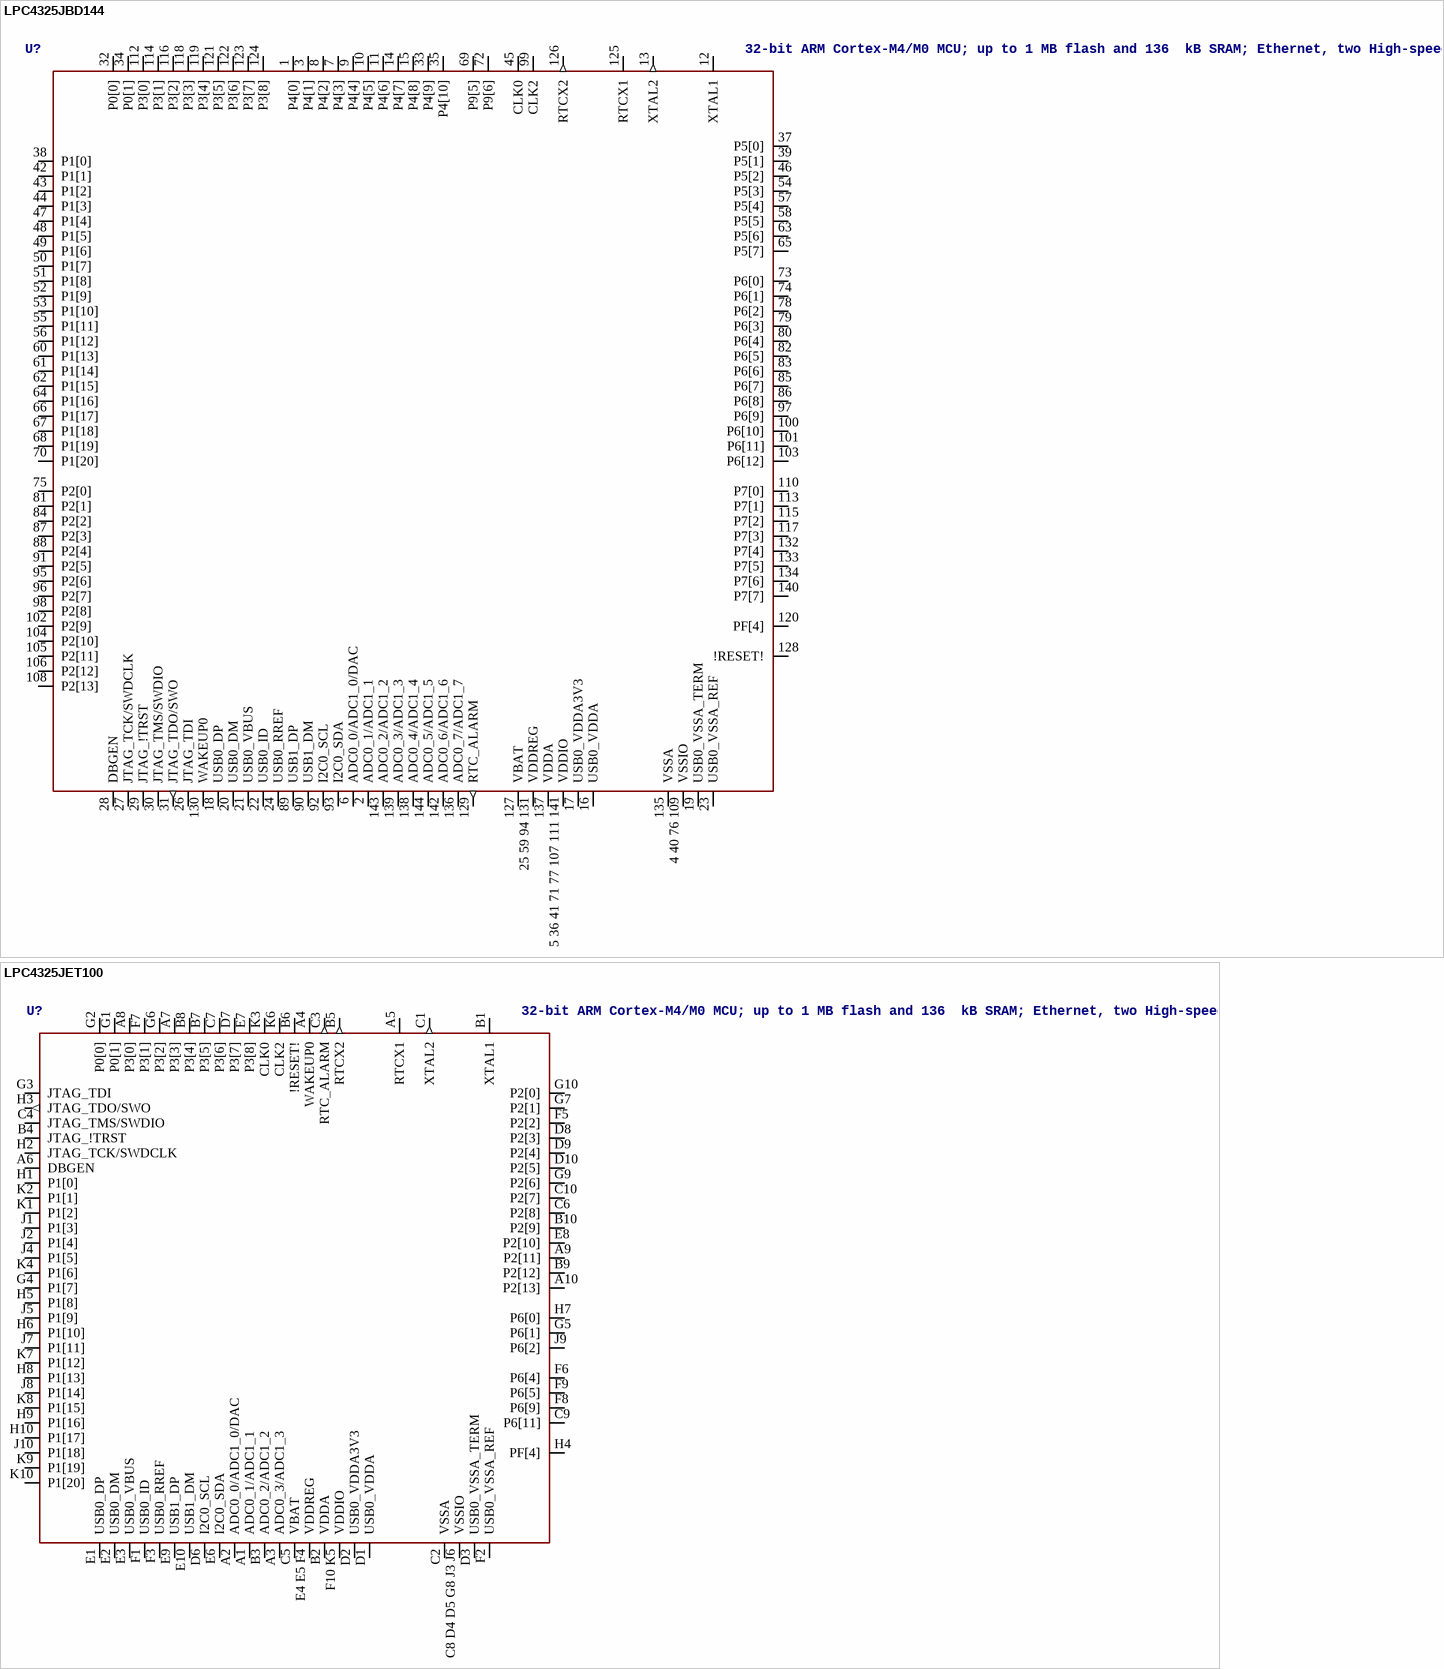
[diagram p136: symbols LPC4325JBD144 to LPC4325JET100]

## LPC4325JBD144
designator U?, comment 32-bit ARM Cortex-M4/M0 MCU; up to 1 MB flash and 136  kB SRAM; Ethernet, two High-speed USB, LCD, EMC The LPC435x/3x/2x/1x are ARM Cortex-M4 based microcontrollers for embedded applications which include an ARM Cortex-M0 coprocessor, up to 1 MB of flash and 136 kB of on-chip SRAM, 16 kB of EEPROM memory, a quad SPI Flash Interface (SPIFI), advanced configurable peripherals such as the State Configurable Timer (SCT) and the Serial General Purpose I/O (SGPIO) interface, two High-speed USB controllers, Ethernet, LCD, an external memory controller, and multiple digital and analog peripherals. The LPC435x/3x/2x/1x operate at CPU frequencies of up to 204 MHz. The ARM Cortex-M4 is a next generation 32-bit core that offers system enhancements such as low power consumption, enhanced debug features, and a high level of support block integration. The ARM Cortex-M4 CPU incorporates a 3-stage pipeline, uses a Harvard architecture with separate local instruction and data buses as well as a third bus for peripherals, and includes an internal prefetch unit that supports speculative branching. The ARM Cortex-M4 supports single-cycle digital signal processing and SIMD instructions. A hardware floating-point unit is integrated in the core. The ARM Cortex-M0 coprocessor is an energy-efficient and easy-to-use 32-bit core which is upward code- and tool-compatible with the Cortex-M4 core. The Cortex-M0 coprocessor, designed as a replacement for existing 8/16-bit microcontrollers, offers up to 204 MHz performance with a simple instruction set and reduced code size.    AAL Eindhoven MK
footprint SOT486-1
pins: 1 P4[0], 2 ADC0_1/ADC1_1, 3 P4[1], 4 40 76 109 VSSIO (power), 5 36 41 71 77 107 111 141 VDDIO (power), 6 ADC0_0/ADC1_0/DAC, 7 P4[3], 8 P4[2], 9 P4[4], 10 P4[5], 11 P4[6], 12 XTAL1, 13 XTAL2 (out), 14 P4[7], 15 P4[8], 16 USB0_VDDA (power), 17 USB0_VDDA3V3 (power), 18 USB0_DP, 19 USB0_VSSA_TERM (power), 20 USB0_DM, 21 USB0_VBUS, 22 USB0_ID, 23 USB0_VSSA_REF (power), 24 USB0_RREF, 25 59 94 131 VDDREG (power), 26 JTAG_TDI, 27 JTAG_TCK/SWDCLK, 28 DBGEN, 29 JTAG_!TRST, 30 JTAG_TMS/SWDIO, 31 JTAG_TDO/SWO (out), 32 P0[0], 33 P4[9], 34 P0[1], 35 P4[10], 37 P5[0], 38 P1[0], 39 P5[1], 42 P1[1], 43 P1[2], 44 P1[3], 45 CLK0, 46 P5[2], 47 P1[4], 48 P1[5], 49 P1[6], 50 P1[7], 51 P1[8], 52 P1[9], 53 P1[10], 54 P5[3], 55 P1[11], 56 P1[12], 57 P5[4], 58 P5[5], 60 P1[13], 61 P1[14], 62 P1[15], 63 P5[6], 64 P1[16], 65 P5[7], 66 P1[17], 67 P1[18], 68 P1[19], 69 P9[5], 70 P1[20], 72 P9[6], 73 P6[0], 74 P6[1], 75 P2[0], 78 P6[2], 79 P6[3], 80 P6[4], 81 P2[1], 82 P6[5], 83 P6[6], 84 P2[2], 85 P6[7], 86 P6[8], 87 P2[3], 88 P2[4], 89 USB1_DP, 90 USB1_DM, 91 P2[5], 92 I2C0_SCL, 93 I2C0_SDA, 95 P2[6], 96 P2[7], 97 P6[9], 98 P2[8], 99 CLK2, 100 P6[10], 101 P6[11], 102 P2[9], 103 P6[12], 104 P2[10], 105 P2[11], 106 P2[12], 108 P2[13], 110 P7[0], 112 P3[0], 113 P7[1], 114 P3[1], 115 P7[2], 116 P3[2], 117 P7[3], 118 P3[3], 119 P3[4], 120 PF[4], 121 P3[5], 122 P3[6], 123 P3[7], 124 P3[8], 125 RTCX1, 126 RTCX2 (out), 127 VBAT (power), 128 !RESET!, 129 RTC_ALARM (out), 130 WAKEUP0, 132 P7[4], 133 P7[5], 134 P7[6], 135 VSSA (power), 136 ADC0_7/ADC1_7, 137 VDDA (power), 138 ADC0_4/ADC1_4, 139 ADC0_3/ADC1_3, 140 P7[7], 142 ADC0_6/ADC1_6, 143 ADC0_2/ADC1_2, 144 ADC0_5/ADC1_5

## LPC4325JET100
designator U?, comment 32-bit ARM Cortex-M4/M0 MCU; up to 1 MB flash and 136  kB SRAM; Ethernet, two High-speed USB, LCD, EMC The LPC435x/3x/2x/1x are ARM Cortex-M4 based microcontrollers for embedded applications which include an ARM Cortex-M0 coprocessor, up to 1 MB of flash and 136 kB of on-chip SRAM, 16 kB of EEPROM memory, a quad SPI Flash Interface (SPIFI), advanced configurable peripherals such as the State Configurable Timer (SCT) and the Serial General Purpose I/O (SGPIO) interface, two High-speed USB controllers, Ethernet, LCD, an external memory controller, and multiple digital and analog peripherals. The LPC435x/3x/2x/1x operate at CPU frequencies of up to 204 MHz. The ARM Cortex-M4 is a next generation 32-bit core that offers system enhancements such as low power consumption, enhanced debug features, and a high level of support block integration. The ARM Cortex-M4 CPU incorporates a 3-stage pipeline, uses a Harvard architecture with separate local instruction and data buses as well as a third bus for peripherals, and includes an internal prefetch unit that supports speculative branching. The ARM Cortex-M4 supports single-cycle digital signal processing and SIMD instructions. A hardware floating-point unit is integrated in the core. The ARM Cortex-M0 coprocessor is an energy-efficient and easy-to-use 32-bit core which is upward code- and tool-compatible with the Cortex-M4 core. The Cortex-M0 coprocessor, designed as a replacement for existing 8/16-bit microcontrollers, offers up to 204 MHz performance with a simple instruction set and reduced code size.    AAL Eindhoven MK
footprint SOT926-1
pins: A1 ADC0_1/ADC1_1, A2 ADC0_0/ADC1_0/DAC, A3 ADC0_3/ADC1_3, A4 WAKEUP0, A5 RTCX1, A6 DBGEN, A7 P3[3], A8 P3[0], A9 P2[11], A10 P2[13], B1 XTAL1, B2 VDDA (power), B3 ADC0_2/ADC1_2, B4 JTAG_!TRST, B5 RTCX2 (out), B6 !RESET!, B7 P3[5], B8 P3[4], B9 P2[12], B10 P2[9], C1 XTAL2 (out), C2 VSSA (power), C3 RTC_ALARM (out), C4 JTAG_TMS/SWDIO, C5 VBAT (power), C6 P2[8], C7 P3[6], C8 D4 D5 G8 J3 J6 VSSIO (power), C9 P6[11], C10 P2[7], D1 USB0_VDDA (power), D2 USB0_VDDA3V3 (power), D3 USB0_VSSA_TERM (power), D6 I2C0_SCL, D7 P3[7], D8 P2[3], D9 P2[4], D10 P2[5], E1 USB0_DP, E2 USB0_DM, E3 USB0_VBUS, E4 E5 F4 VDDREG (power), E6 I2C0_SDA, E7 P3[8], E8 P2[10], E9 USB1_DP, E10 USB1_DM, F1 USB0_ID, F2 USB0_VSSA_REF (power), F3 USB0_RREF, F5 P2[2], F6 P6[4], F7 P3[1], F8 P6[9], F9 P6[5], F10 K5 VDDIO (power), G1 P0[1], G2 P0[0], G3 JTAG_TDI, G4 P1[7], G5 P6[1], G6 P3[2], G7 P2[1], G9 P2[6], G10 P2[0], H1 P1[0], H2 JTAG_TCK/SWDCLK, H3 JTAG_TDO/SWO (out), H4 PF[4], H5 P1[8], H6 P1[10], H7 P6[0], H8 P1[13], H9 P1[16], H10 P1[17], J1 P1[3], J2 P1[4], J4 P1[5], J5 P1[9], J7 P1[11], J8 P1[14], J9 P6[2], J10 P1[18], K1 P1[2], K2 P1[1], K3 CLK0, K4 P1[6], K6 CLK2, K7 P1[12], K8 P1[15], K9 P1[19], K10 P1[20]

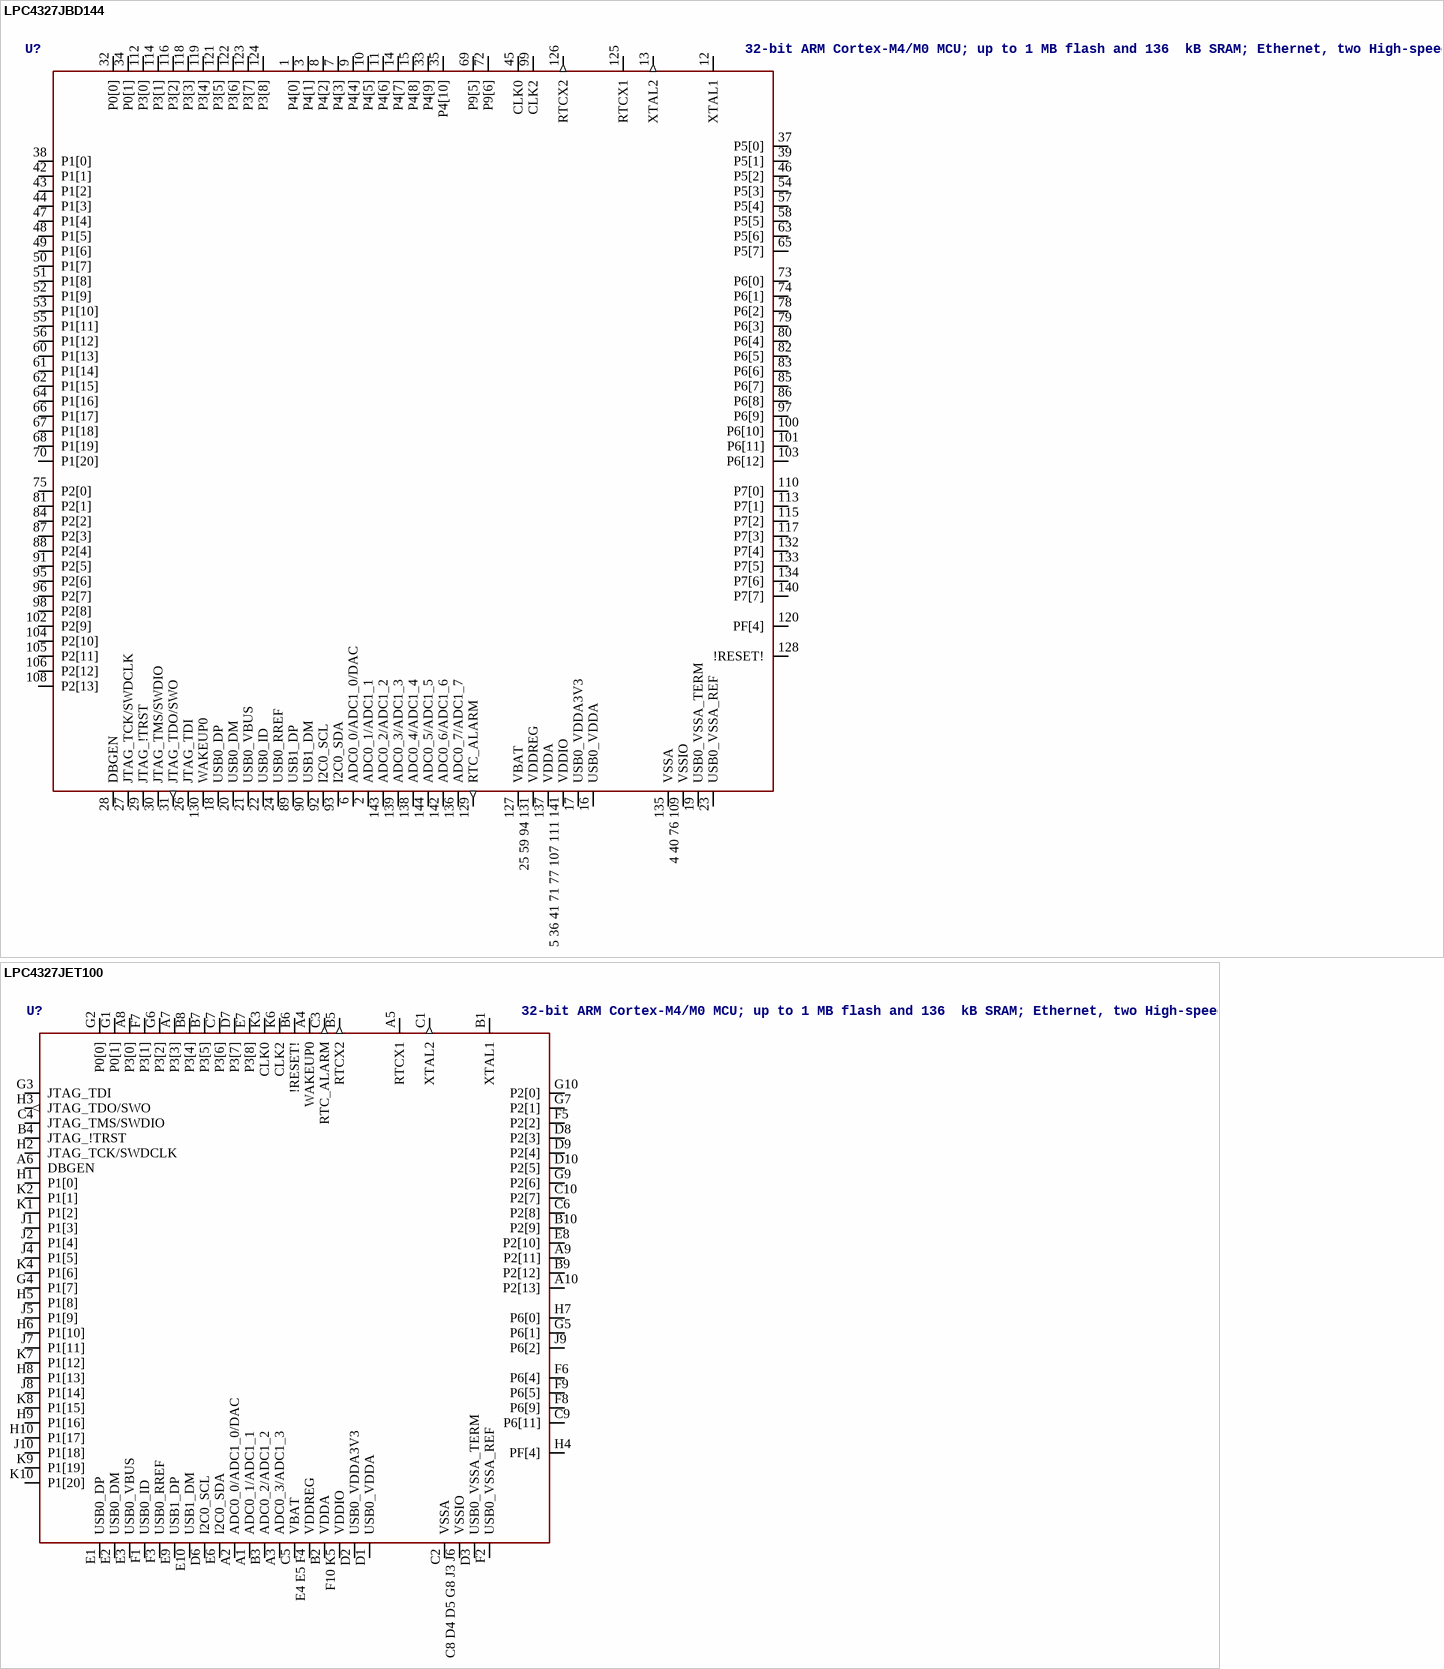
[diagram p137: symbols LPC4327JBD144 to LPC4327JET100]

## LPC4327JBD144
designator U?, comment 32-bit ARM Cortex-M4/M0 MCU; up to 1 MB flash and 136  kB SRAM; Ethernet, two High-speed USB, LCD, EMC The LPC435x/3x/2x/1x are ARM Cortex-M4 based microcontrollers for embedded applications which include an ARM Cortex-M0 coprocessor, up to 1 MB of flash and 136 kB of on-chip SRAM, 16 kB of EEPROM memory, a quad SPI Flash Interface (SPIFI), advanced configurable peripherals such as the State Configurable Timer (SCT) and the Serial General Purpose I/O (SGPIO) interface, two High-speed USB controllers, Ethernet, LCD, an external memory controller, and multiple digital and analog peripherals. The LPC435x/3x/2x/1x operate at CPU frequencies of up to 204 MHz. The ARM Cortex-M4 is a next generation 32-bit core that offers system enhancements such as low power consumption, enhanced debug features, and a high level of support block integration. The ARM Cortex-M4 CPU incorporates a 3-stage pipeline, uses a Harvard architecture with separate local instruction and data buses as well as a third bus for peripherals, and includes an internal prefetch unit that supports speculative branching. The ARM Cortex-M4 supports single-cycle digital signal processing and SIMD instructions. A hardware floating-point unit is integrated in the core. The ARM Cortex-M0 coprocessor is an energy-efficient and easy-to-use 32-bit core which is upward code- and tool-compatible with the Cortex-M4 core. The Cortex-M0 coprocessor, designed as a replacement for existing 8/16-bit microcontrollers, offers up to 204 MHz performance with a simple instruction set and reduced code size.    AAL Eindhoven MK
footprint SOT486-1
pins: 1 P4[0], 2 ADC0_1/ADC1_1, 3 P4[1], 4 40 76 109 VSSIO (power), 5 36 41 71 77 107 111 141 VDDIO (power), 6 ADC0_0/ADC1_0/DAC, 7 P4[3], 8 P4[2], 9 P4[4], 10 P4[5], 11 P4[6], 12 XTAL1, 13 XTAL2 (out), 14 P4[7], 15 P4[8], 16 USB0_VDDA (power), 17 USB0_VDDA3V3 (power), 18 USB0_DP, 19 USB0_VSSA_TERM (power), 20 USB0_DM, 21 USB0_VBUS, 22 USB0_ID, 23 USB0_VSSA_REF (power), 24 USB0_RREF, 25 59 94 131 VDDREG (power), 26 JTAG_TDI, 27 JTAG_TCK/SWDCLK, 28 DBGEN, 29 JTAG_!TRST, 30 JTAG_TMS/SWDIO, 31 JTAG_TDO/SWO (out), 32 P0[0], 33 P4[9], 34 P0[1], 35 P4[10], 37 P5[0], 38 P1[0], 39 P5[1], 42 P1[1], 43 P1[2], 44 P1[3], 45 CLK0, 46 P5[2], 47 P1[4], 48 P1[5], 49 P1[6], 50 P1[7], 51 P1[8], 52 P1[9], 53 P1[10], 54 P5[3], 55 P1[11], 56 P1[12], 57 P5[4], 58 P5[5], 60 P1[13], 61 P1[14], 62 P1[15], 63 P5[6], 64 P1[16], 65 P5[7], 66 P1[17], 67 P1[18], 68 P1[19], 69 P9[5], 70 P1[20], 72 P9[6], 73 P6[0], 74 P6[1], 75 P2[0], 78 P6[2], 79 P6[3], 80 P6[4], 81 P2[1], 82 P6[5], 83 P6[6], 84 P2[2], 85 P6[7], 86 P6[8], 87 P2[3], 88 P2[4], 89 USB1_DP, 90 USB1_DM, 91 P2[5], 92 I2C0_SCL, 93 I2C0_SDA, 95 P2[6], 96 P2[7], 97 P6[9], 98 P2[8], 99 CLK2, 100 P6[10], 101 P6[11], 102 P2[9], 103 P6[12], 104 P2[10], 105 P2[11], 106 P2[12], 108 P2[13], 110 P7[0], 112 P3[0], 113 P7[1], 114 P3[1], 115 P7[2], 116 P3[2], 117 P7[3], 118 P3[3], 119 P3[4], 120 PF[4], 121 P3[5], 122 P3[6], 123 P3[7], 124 P3[8], 125 RTCX1, 126 RTCX2 (out), 127 VBAT (power), 128 !RESET!, 129 RTC_ALARM (out), 130 WAKEUP0, 132 P7[4], 133 P7[5], 134 P7[6], 135 VSSA (power), 136 ADC0_7/ADC1_7, 137 VDDA (power), 138 ADC0_4/ADC1_4, 139 ADC0_3/ADC1_3, 140 P7[7], 142 ADC0_6/ADC1_6, 143 ADC0_2/ADC1_2, 144 ADC0_5/ADC1_5

## LPC4327JET100
designator U?, comment 32-bit ARM Cortex-M4/M0 MCU; up to 1 MB flash and 136  kB SRAM; Ethernet, two High-speed USB, LCD, EMC The LPC435x/3x/2x/1x are ARM Cortex-M4 based microcontrollers for embedded applications which include an ARM Cortex-M0 coprocessor, up to 1 MB of flash and 136 kB of on-chip SRAM, 16 kB of EEPROM memory, a quad SPI Flash Interface (SPIFI), advanced configurable peripherals such as the State Configurable Timer (SCT) and the Serial General Purpose I/O (SGPIO) interface, two High-speed USB controllers, Ethernet, LCD, an external memory controller, and multiple digital and analog peripherals. The LPC435x/3x/2x/1x operate at CPU frequencies of up to 204 MHz. The ARM Cortex-M4 is a next generation 32-bit core that offers system enhancements such as low power consumption, enhanced debug features, and a high level of support block integration. The ARM Cortex-M4 CPU incorporates a 3-stage pipeline, uses a Harvard architecture with separate local instruction and data buses as well as a third bus for peripherals, and includes an internal prefetch unit that supports speculative branching. The ARM Cortex-M4 supports single-cycle digital signal processing and SIMD instructions. A hardware floating-point unit is integrated in the core. The ARM Cortex-M0 coprocessor is an energy-efficient and easy-to-use 32-bit core which is upward code- and tool-compatible with the Cortex-M4 core. The Cortex-M0 coprocessor, designed as a replacement for existing 8/16-bit microcontrollers, offers up to 204 MHz performance with a simple instruction set and reduced code size.    AAL Eindhoven MK
footprint SOT926-1
pins: A1 ADC0_1/ADC1_1, A2 ADC0_0/ADC1_0/DAC, A3 ADC0_3/ADC1_3, A4 WAKEUP0, A5 RTCX1, A6 DBGEN, A7 P3[3], A8 P3[0], A9 P2[11], A10 P2[13], B1 XTAL1, B2 VDDA (power), B3 ADC0_2/ADC1_2, B4 JTAG_!TRST, B5 RTCX2 (out), B6 !RESET!, B7 P3[5], B8 P3[4], B9 P2[12], B10 P2[9], C1 XTAL2 (out), C2 VSSA (power), C3 RTC_ALARM (out), C4 JTAG_TMS/SWDIO, C5 VBAT (power), C6 P2[8], C7 P3[6], C8 D4 D5 G8 J3 J6 VSSIO (power), C9 P6[11], C10 P2[7], D1 USB0_VDDA (power), D2 USB0_VDDA3V3 (power), D3 USB0_VSSA_TERM (power), D6 I2C0_SCL, D7 P3[7], D8 P2[3], D9 P2[4], D10 P2[5], E1 USB0_DP, E2 USB0_DM, E3 USB0_VBUS, E4 E5 F4 VDDREG (power), E6 I2C0_SDA, E7 P3[8], E8 P2[10], E9 USB1_DP, E10 USB1_DM, F1 USB0_ID, F2 USB0_VSSA_REF (power), F3 USB0_RREF, F5 P2[2], F6 P6[4], F7 P3[1], F8 P6[9], F9 P6[5], F10 K5 VDDIO (power), G1 P0[1], G2 P0[0], G3 JTAG_TDI, G4 P1[7], G5 P6[1], G6 P3[2], G7 P2[1], G9 P2[6], G10 P2[0], H1 P1[0], H2 JTAG_TCK/SWDCLK, H3 JTAG_TDO/SWO (out), H4 PF[4], H5 P1[8], H6 P1[10], H7 P6[0], H8 P1[13], H9 P1[16], H10 P1[17], J1 P1[3], J2 P1[4], J4 P1[5], J5 P1[9], J7 P1[11], J8 P1[14], J9 P6[2], J10 P1[18], K1 P1[2], K2 P1[1], K3 CLK0, K4 P1[6], K6 CLK2, K7 P1[12], K8 P1[15], K9 P1[19], K10 P1[20]

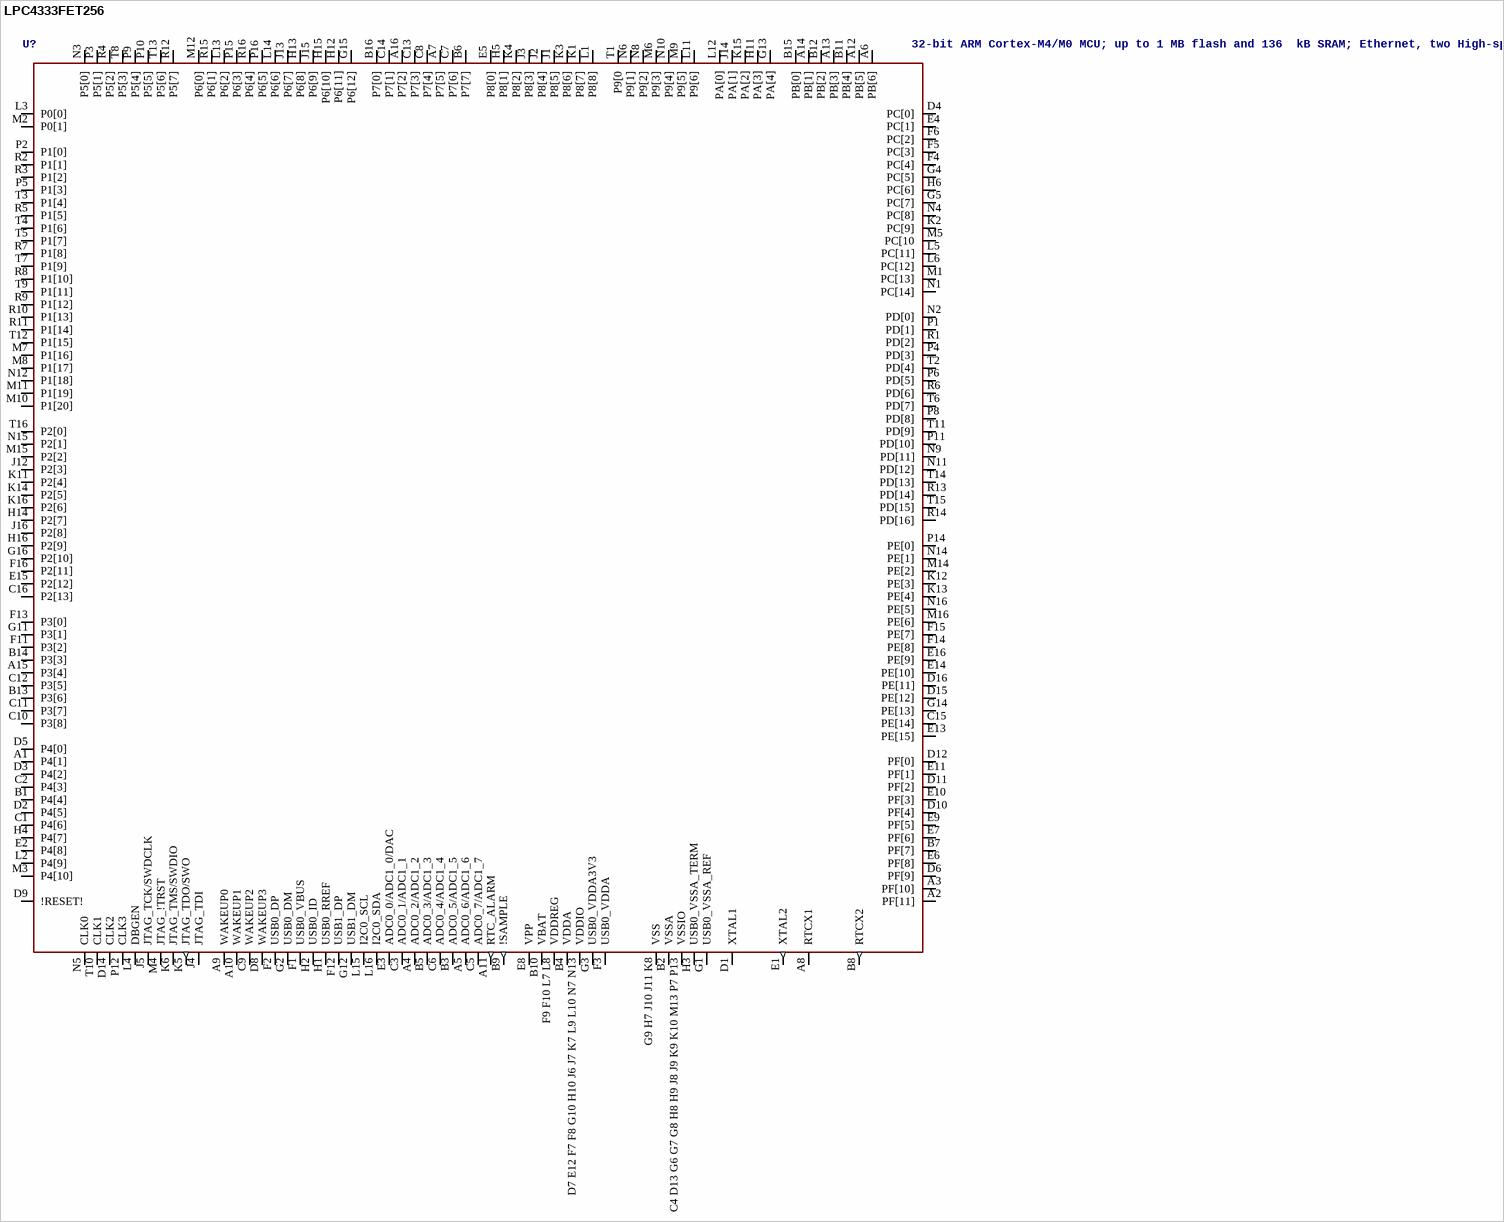
[diagram p138: symbol LPC4333FET256]

## LPC4333FET256
designator U?, comment 32-bit ARM Cortex-M4/M0 MCU; up to 1 MB flash and 136  kB SRAM; Ethernet, two High-speed USB, LCD, EMC The LPC435x/3x/2x/1x are ARM Cortex-M4 based microcontrollers for embedded applications which include an ARM Cortex-M0 coprocessor, up to 1 MB of flash and 136 kB of on-chip SRAM, 16 kB of EEPROM memory, a quad SPI Flash Interface (SPIFI), advanced configurable peripherals such as the State Configurable Timer (SCT) and the Serial General Purpose I/O (SGPIO) interface, two High-speed USB controllers, Ethernet, LCD, an external memory controller, and multiple digital and analog peripherals. The LPC435x/3x/2x/1x operate at CPU frequencies of up to 204 MHz. The ARM Cortex-M4 is a next generation 32-bit core that offers system enhancements such as low power consumption, enhanced debug features, and a high level of support block integration. The ARM Cortex-M4 CPU incorporates a 3-stage pipeline, uses a Harvard architecture with separate local instruction and data buses as well as a third bus for peripherals, and includes an internal prefetch unit that supports speculative branching. The ARM Cortex-M4 supports single-cycle digital signal processing and SIMD instructions. A hardware floating-point unit is integrated in the core. The ARM Cortex-M0 coprocessor is an energy-efficient and easy-to-use 32-bit core which is upward code- and tool-compatible with the Cortex-M4 core. The Cortex-M0 coprocessor, designed as a replacement for existing 8/16-bit microcontrollers, offers up to 204 MHz performance with a simple instruction set and reduced code size.    AAL Eindhoven MK
footprint SOT740-2
pins: A1 P4[1], A2 PF[11], A3 PF[10], A4 ADC0_2/ADC1_2, A5 ADC0_6/ADC1_6, A6 PB[6], A7 P7[5], A8 RTCX1, A9 WAKEUP0, A10 WAKEUP1, A11 RTC_ALARM (out), A12 PB[5], A13 PB[3], A14 PB[1], A15 P3[4], A16 P7[2], B1 P4[4], B2 VSSA (power), B3 ADC0_5/ADC1_5, B4 VDDA (power), B5 ADC0_3/ADC1_3, B6 P7[7], B7 PF[7], B8 RTCX2 (out), B9 !SAMPLE (out), B10 VBAT (power), B11 PB[4], B12 PB[2], B13 P3[6], B14 P3[3], B15 PB[0], B16 P7[0], C1 P4[6], C2 P4[3], C3 ADC0_1/ADC1_1, C4 D13 G6 G7 G8 H8 H9 J8 J9 K9 K10 M13 P7 P13 VSSIO (power), C5 ADC0_7/ADC1_7, C6 ADC0_4/ADC1_4, C7 P7[6], C8 P7[4], C9 WAKEUP2, C10 P3[8], C11 P3[7], C12 P3[5], C13 P7[3], C14 P7[1], C15 PE[14], C16 P2[13], D1 XTAL1, D2 P4[5], D3 P4[2], D4 PC[0], D5 P4[0], D6 PF[9], D7 E12 F7 F8 G10 H10 J6 J7 K7 L9 L10 N7 N13 VDDIO (power), D8 WAKEUP3, D9 !RESET!, D10 PF[4], D11 PF[2], D12 PF[0], D14 CLK2, D15 PE[12], D16 PE[11], E1 XTAL2 (out), E2 P4[8], E3 ADC0_0/ADC1_0/DAC, E4 PC[1], E5 P8[0], E6 PF[8], E7 PF[6], E8 VPP (power), E9 PF[5], E10 PF[3], E11 PF[1], E13 PE[15], E14 PE[10], E15 P2[12], E16 PE[9], F1 USB0_VBUS, F2 USB0_DP, F3 USB0_VDDA (power), F4 PC[4], F5 PC[3], F6 PC[2], F9 F10 L7 L8 VDDREG (power), F11 P3[2], F12 USB1_DP, F13 P3[0], F14 PE[8], F15 PE[7], F16 P2[11], G1 USB0_VSSA_REF (power), G2 USB0_DM, G3 USB0_VDDA3V3 (power), G4 PC[5], G5 PC[7], G9 H7 J10 J11 K8 VSS (power), G11 P3[1], G12 USB1_DM, G13 PA[4], G14 PE[13], G15 P6[12], G16 P2[10], H1 USB0_RREF, H2 USB0_ID, H3 USB0_VSSA_TERM (power), H4 P4[7], H5 P8[1], H6 PC[6], H11 PA[3], H12 P6[11], H13 P6[8], H14 P2[7], H15 P6[10], H16 P2[9], J1 P8[5], J2 P8[4], J3 P8[3], J4 JTAG_TDI, J5 JTAG_TCK/SWDCLK, J12 P2[3], J13 P6[7], J14 PA[1], J15 P6[9], J16 P2[8], K1 P8[7], K2 PC[9], K3 P8[6], K4 P8[2], K5 JTAG_TDO/SWO (out), K6 JTAG_TMS/SWDIO, K11 P2[4], K12 PE[3], K13 PE[4], K14 P2[5], K15 PA[2], K16 P2[6], L1 P8[8], L2 P4[9], L3 P0[0], L4 DBGEN, L5 PC[11], L6 PC[12], L11 P9[6], L12 PA[0], L13 P6[2], L14 P6[6], L15 I2C0_SCL, L16 I2C0_SDA, M1 PC[13], M2 P0[1], M3 P4[10], M4 JTAG_!TRST, M5 PC[10, M6 P9[3], M7 P1[16], M8 P1[17], M9 P9[5], M10 P1[20], M11 P1[19], M12 P6[0], M14 PE[2], M15 P2[2], M16 PE[6], N1 PC[14], N2 PD[0], N3 P5[0], N4 PC[8], N5 CLK0, N6 P9[1], N8 P9[2], N9 PD[11], N10 P9[4], N11 PD[12], N12 P1[18], N14 PE[1], N15 P2[1], N16 PE[5], P1 PD[1], P2 P1[0], P3 P5[1], P4 PD[3], P5 P1[3], P6 PD[5], P8 PD[8], P9 P5[4], P10 P5[5], P11 PD[10], P12 CLK3, P14 PE[0], P15 P6[3], P16 P6[5], R1 PD[2], R2 P1[1], R3 P1[2], R4 P5[2], R5 P1[5], R6 PD[6], R7 P1[8], R8 P1[10], R9 P1[12], R10 P1[13], R11 P1[14], R12 P5[7], R13 PD[14], R14 PD[16], R15 P6[1], R16 P6[4], T1 P9[0, T2 PD[4], T3 P1[4], T4 P1[6], T5 P1[7], T6 PD[7], T7 P1[9], T8 P5[3], T9 P1[11], T10 CLK1, T11 PD[9], T12 P1[15], T13 P5[6], T14 PD[13], T15 PD[15], T16 P2[0]

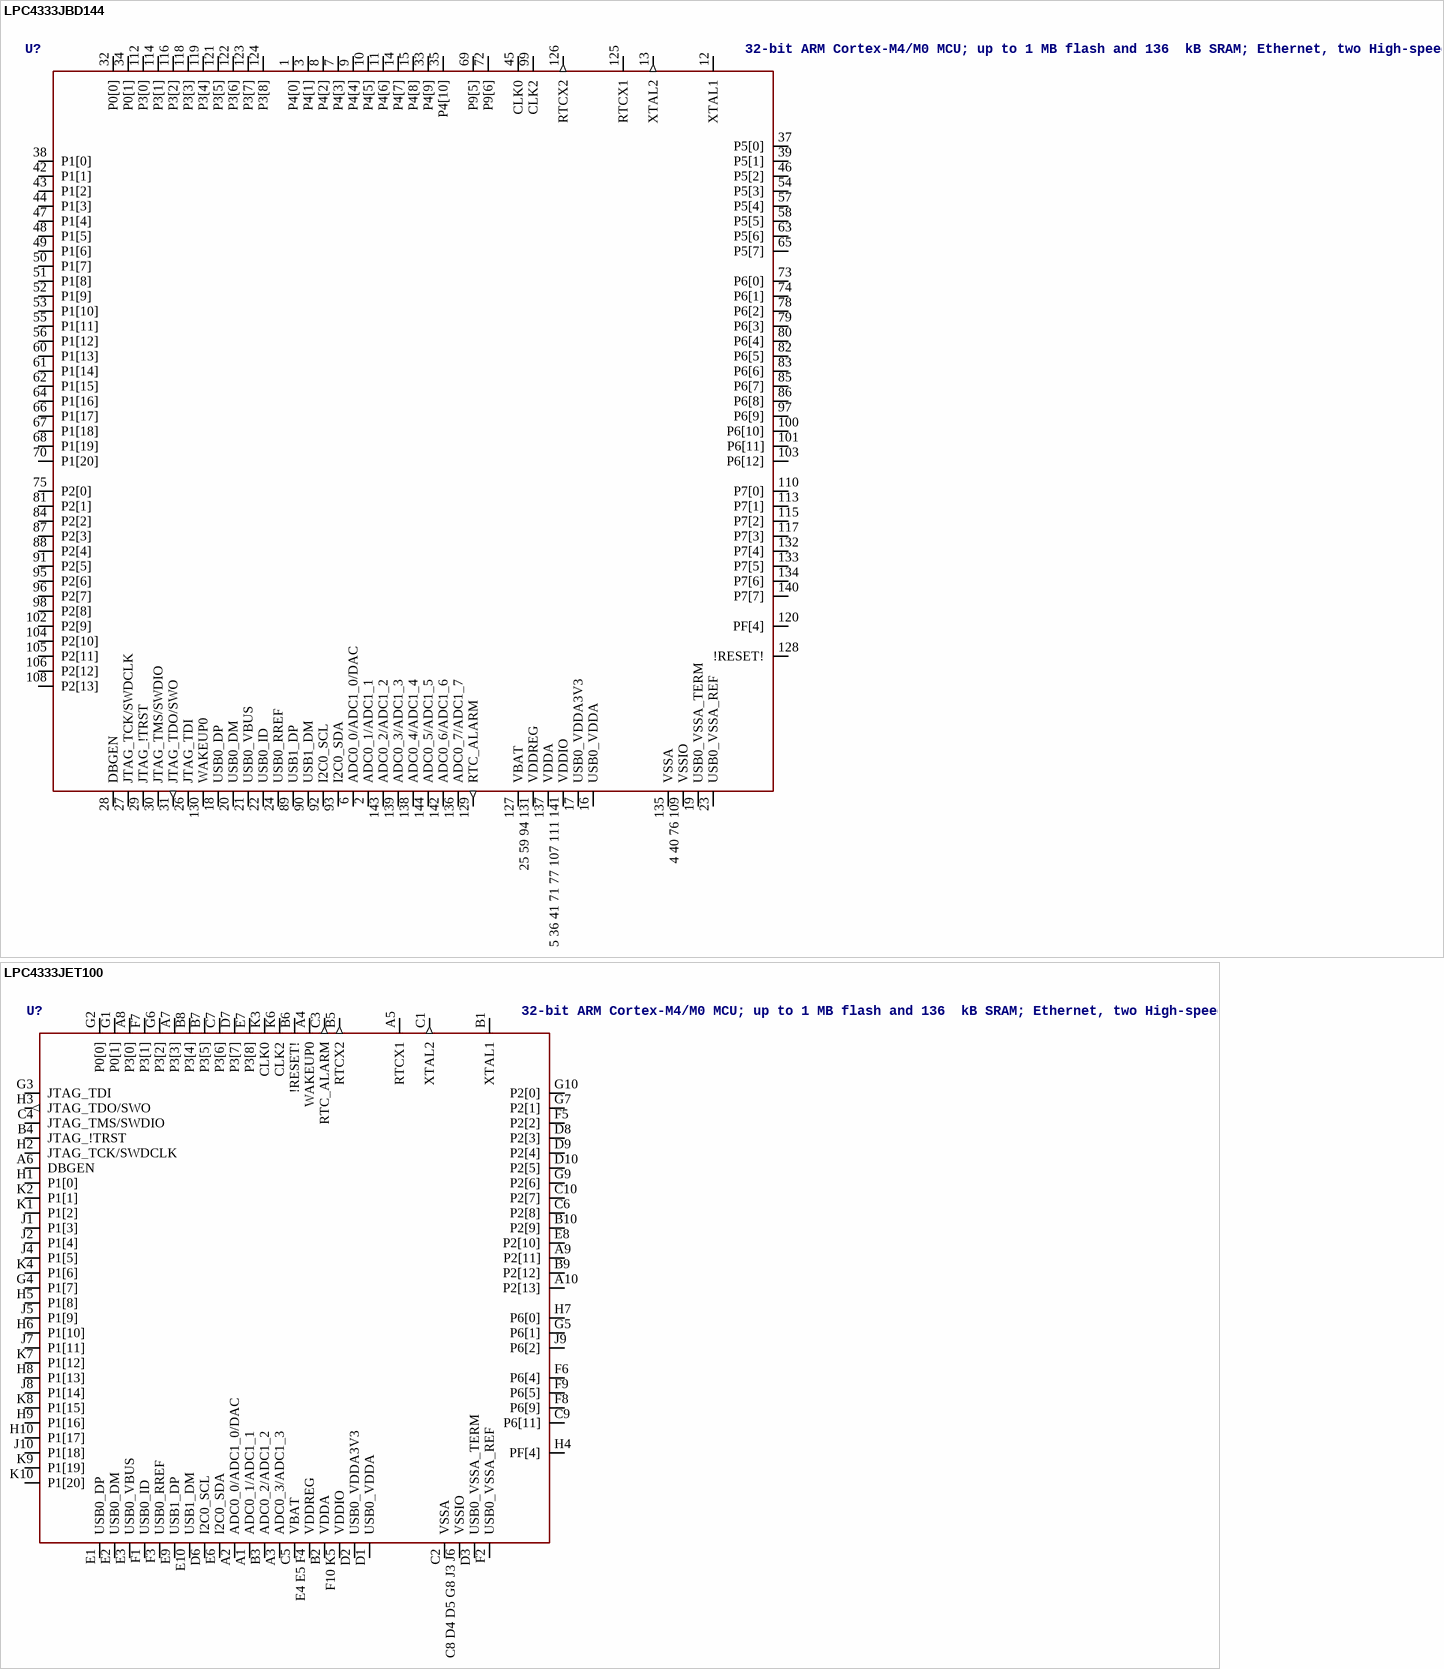
[diagram p139: symbols LPC4333JBD144 to LPC4333JET100]